# Altium schematic symbol library dungvh03-CERN_Logic.SchLib: 486 symbols (part 7 of 54)
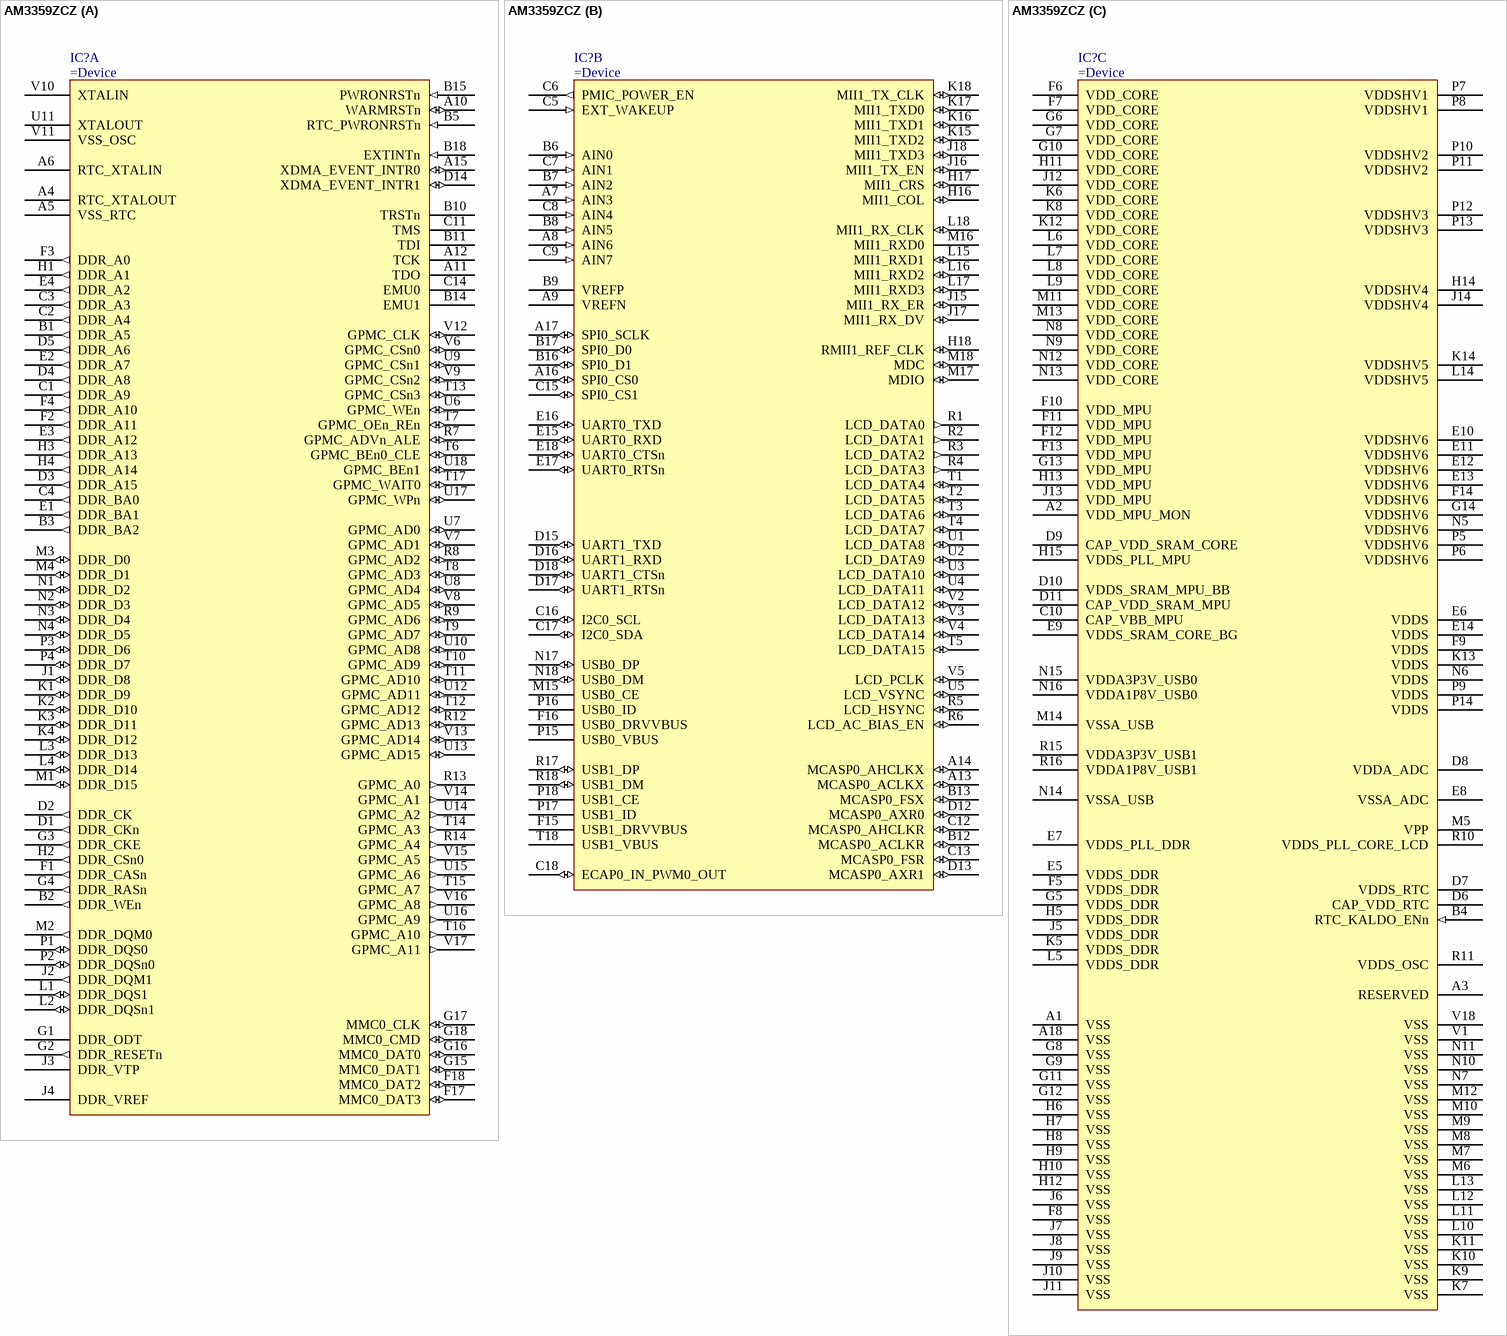
[diagram p267: symbol AM3359ZCZ]

## AM3359ZCZ
designator IC?
SubArctic Cortex A8 Processor
part A pins: A4 RTC_XTALOUT, A5 VSS_RTC (power), A6 RTC_XTALIN, A10 WARMRSTn (io), A11 TDO, A12 TCK, A15 XDMA_EVENT_INTR0 (io), B1 DDR_A5 (out), B2 DDR_WEn (out), B3 DDR_BA2 (out), B5 RTC_PWRONRSTn (in), B10 TRSTn, B11 TDI, B14 EMU1, B15 PWRONRSTn (in), B18 EXTINTn (in), C1 DDR_A9 (out), C2 DDR_A4 (out), C3 DDR_A3 (out), C4 DDR_BA0 (out), C11 TMS, C14 EMU0, D1 DDR_CKn (out), D2 DDR_CK (out), D3 DDR_A15 (out), D4 DDR_A8 (out), D5 DDR_A6 (out), D14 XDMA_EVENT_INTR1 (io), E1 DDR_BA1 (out), E2 DDR_A7 (out), E3 DDR_A12 (out), E4 DDR_A2 (out), F1 DDR_CASn (out), F2 DDR_A11 (out), F3 DDR_A0 (out), F4 DDR_A10 (out), F17 MMC0_DAT3 (io), F18 MMC0_DAT2 (io), G1 DDR_ODT, G2 DDR_RESETn (out), G3 DDR_CKE (out), G4 DDR_RASn (out), G15 MMC0_DAT1 (io), G16 MMC0_DAT0 (io), G17 MMC0_CLK (io), G18 MMC0_CMD (io), H1 DDR_A1 (out), H2 DDR_CSn0 (out), H3 DDR_A13 (out), H4 DDR_A14 (out), J1 DDR_D8 (io), J2 DDR_DQM1 (out), J3 DDR_VTP, J4 DDR_VREF, K1 DDR_D9 (io), K2 DDR_D10 (io), K3 DDR_D11 (io), K4 DDR_D12 (io), L1 DDR_DQS1 (io), L2 DDR_DQSn1 (io), L3 DDR_D13 (io), L4 DDR_D14 (io), M1 DDR_D15 (io), M2 DDR_DQM0 (out), M3 DDR_D0 (io), M4 DDR_D1 (io), N1 DDR_D2 (io), N2 DDR_D3 (io), N3 DDR_D4 (io), N4 DDR_D5 (io), P1 DDR_DQS0 (io), P2 DDR_DQSn0 (io), P3 DDR_D6 (io), P4 DDR_D7 (io), R7 GPMC_ADVn_ALE (io), R8 GPMC_AD2 (io), R9 GPMC_AD6 (io), R12 GPMC_AD13 (io), R13 GPMC_A0 (out), R14 GPMC_A4 (out), T6 GPMC_BEn0_CLE (io), T7 GPMC_OEn_REn (io), T8 GPMC_AD3 (io), T9 GPMC_AD7 (io), T10 GPMC_AD9 (io), T11 GPMC_AD10 (io), T12 GPMC_AD12 (io), T13 GPMC_CSn3 (io), T14 GPMC_A3 (out), T15 GPMC_A7 (out), T16 GPMC_A10 (out), T17 GPMC_WAIT0 (io), U6 GPMC_WEn (io), U7 GPMC_AD0 (io), U8 GPMC_AD4 (io), U9 GPMC_CSn1 (io), U10 GPMC_AD8 (io), U11 XTALOUT, U12 GPMC_AD11 (io), U13 GPMC_AD15 (io), U14 GPMC_A2 (out), U15 GPMC_A6 (out), U16 GPMC_A9 (out), U17 GPMC_WPn (io), U18 GPMC_BEn1 (io), V6 GPMC_CSn0 (io), V7 GPMC_AD1 (io), V8 GPMC_AD5 (io), V9 GPMC_CSn2 (io), V10 XTALIN, V11 VSS_OSC (power), V12 GPMC_CLK (io), V13 GPMC_AD14 (io), V14 GPMC_A1 (out), V15 GPMC_A5 (out), V16 GPMC_A8 (out), V17 GPMC_A11 (out)
part B pins: A7 AIN3 (in), A8 AIN6 (in), A9 VREFN, A13 MCASP0_ACLKX (io), A14 MCASP0_AHCLKX (io), A16 SPI0_CS0 (io), A17 SPI0_SCLK (io), B6 AIN0 (in), B7 AIN2 (in), B8 AIN5 (in), B9 VREFP, B12 MCASP0_ACLKR (io), B13 MCASP0_FSX (io), B16 SPI0_D1 (io), B17 SPI0_D0 (io), C5 EXT_WAKEUP (in), C6 PMIC_POWER_EN (out), C7 AIN1 (in), C8 AIN4 (in), C9 AIN7 (in), C12 MCASP0_AHCLKR (io), C13 MCASP0_FSR (io), C15 SPI0_CS1 (io), C16 I2C0_SCL (io), C17 I2C0_SDA (io), C18 ECAP0_IN_PWM0_OUT (io), D12 MCASP0_AXR0 (io), D13 MCASP0_AXR1 (io), D15 UART1_TXD (io), D16 UART1_RXD (io), D17 UART1_RTSn (io), D18 UART1_CTSn (io), E15 UART0_RXD (io), E16 UART0_TXD (io), E17 UART0_RTSn (io), E18 UART0_CTSn (io), F15 USB1_DRVVBUS, F16 USB0_DRVVBUS, H16 MII1_COL (io), H17 MII1_CRS (io), H18 RMII1_REF_CLK (io), J15 MII1_RX_ER (io), J16 MII1_TX_EN (io), J17 MII1_RX_DV (io), J18 MII1_TXD3 (io), K15 MII1_TXD2 (io), K16 MII1_TXD1 (io), K17 MII1_TXD0 (io), K18 MII1_TX_CLK (io), L15 MII1_RXD1 (io), L16 MII1_RXD2 (io), L17 MII1_RXD3 (io), L18 MII1_RX_CLK (io), M15 USB0_CE, M16 MII1_RXD0, M17 MDIO (io), M18 MDC (io), N17 USB0_DP (io), N18 USB0_DM (io), P15 USB0_VBUS, P16 USB0_ID, P17 USB1_ID, P18 USB1_CE, R1 LCD_DATA0 (out), R2 LCD_DATA1 (out), R3 LCD_DATA2 (out), R4 LCD_DATA3 (out), R5 LCD_HSYNC (io), R6 LCD_AC_BIAS_EN (io), R17 USB1_DP (io), R18 USB1_DM (io), T1 LCD_DATA4 (io), T2 LCD_DATA5 (io), T3 LCD_DATA6 (io), T4 LCD_DATA7 (io), T5 LCD_DATA15 (io), T18 USB1_VBUS, U1 LCD_DATA8 (io), U2 LCD_DATA9 (io), U3 LCD_DATA10 (io), U4 LCD_DATA11 (io), U5 LCD_VSYNC (io), V2 LCD_DATA12 (io), V3 LCD_DATA13 (io), V4 LCD_DATA14 (io), V5 LCD_PCLK (io)
part C pins: A1 VSS (power), A2 VDD_MPU_MON, A3 RESERVED, A18 VSS (power), B4 RTC_KALDO_ENn (in), C10 CAP_VBB_MPU, D6 CAP_VDD_RTC (power), D7 VDDS_RTC (power), D8 VDDA_ADC (power), D9 CAP_VDD_SRAM_CORE (power), D10 VDDS_SRAM_MPU_BB (power), D11 CAP_VDD_SRAM_MPU (power), E5 VDDS_DDR (power), E6 VDDS (power), E7 VDDS_PLL_DDR (power), E8 VSSA_ADC (power), E9 VDDS_SRAM_CORE_BG (power), E10 VDDSHV6 (power), E11 VDDSHV6 (power), E12 VDDSHV6 (power), E13 VDDSHV6 (power), E14 VDDS (power), F5 VDDS_DDR (power), F6 VDD_CORE (power), F7 VDD_CORE (power), F8 VSS (power), F9 VDDS (power), F10 VDD_MPU (power), F11 VDD_MPU (power), F12 VDD_MPU (power), F13 VDD_MPU (power), F14 VDDSHV6 (power), G5 VDDS_DDR (power), G6 VDD_CORE (power), G7 VDD_CORE (power), G8 VSS (power), G9 VSS (power), G10 VDD_CORE (power), G11 VSS (power), G12 VSS (power), G13 VDD_MPU (power), G14 VDDSHV6 (power), H5 VDDS_DDR (power), H6 VSS (power), H7 VSS (power), H8 VSS (power), H9 VSS (power), H10 VSS (power), H11 VDD_CORE (power), H12 VSS (power), H13 VDD_MPU (power), H14 VDDSHV4 (power), H15 VDDS_PLL_MPU (power), J5 VDDS_DDR (power), J6 VSS (power), J7 VSS (power), J8 VSS (power), J9 VSS (power), J10 VSS (power), J11 VSS (power), J12 VDD_CORE (power), J13 VDD_MPU (power), J14 VDDSHV4 (power), K5 VDDS_DDR (power), K6 VDD_CORE (power), K7 VSS (power), K8 VDD_CORE (power), K9 VSS (power), K10 VSS (power), K11 VSS (power), K12 VDD_CORE (power), K13 VDDS (power), K14 VDDSHV5 (power), L5 VDDS_DDR (power), L6 VDD_CORE (power), L7 VDD_CORE (power), L8 VDD_CORE (power), L9 VDD_CORE (power), L10 VSS (power), L11 VSS (power), L12 VSS (power), L13 VSS (power), L14 VDDSHV5 (power), M5 VPP (power), M6 VSS (power), M7 VSS (power), M8 VSS (power), M9 VSS (power), M10 VSS (power), M11 VDD_CORE (power), M12 VSS (power), M13 VDD_CORE (power), M14 VSSA_USB (power), N5 VDDSHV6 (power), N6 VDDS (power), N7 VSS (power), N8 VDD_CORE (power), N9 VDD_CORE (power), N10 VSS (power), N11 VSS (power), N12 VDD_CORE (power), N13 VDD_CORE (power), N14 VSSA_USB (power), N15 VDDA3P3V_USB0 (power), N16 VDDA1P8V_USB0 (power), P5 VDDSHV6 (power), P6 VDDSHV6 (power), P7 VDDSHV1 (power), P8 VDDSHV1 (power), P9 VDDS (power), P10 VDDSHV2 (power), P11 VDDSHV2 (power), P12 VDDSHV3 (power), P13 VDDSHV3 (power), P14 VDDS (power), R10 VDDS_PLL_CORE_LCD (power), R11 VDDS_OSC (power), R15 VDDA3P3V_USB1 (power), R16 VDDA1P8V_USB1 (power), V1 VSS (power), V18 VSS (power)

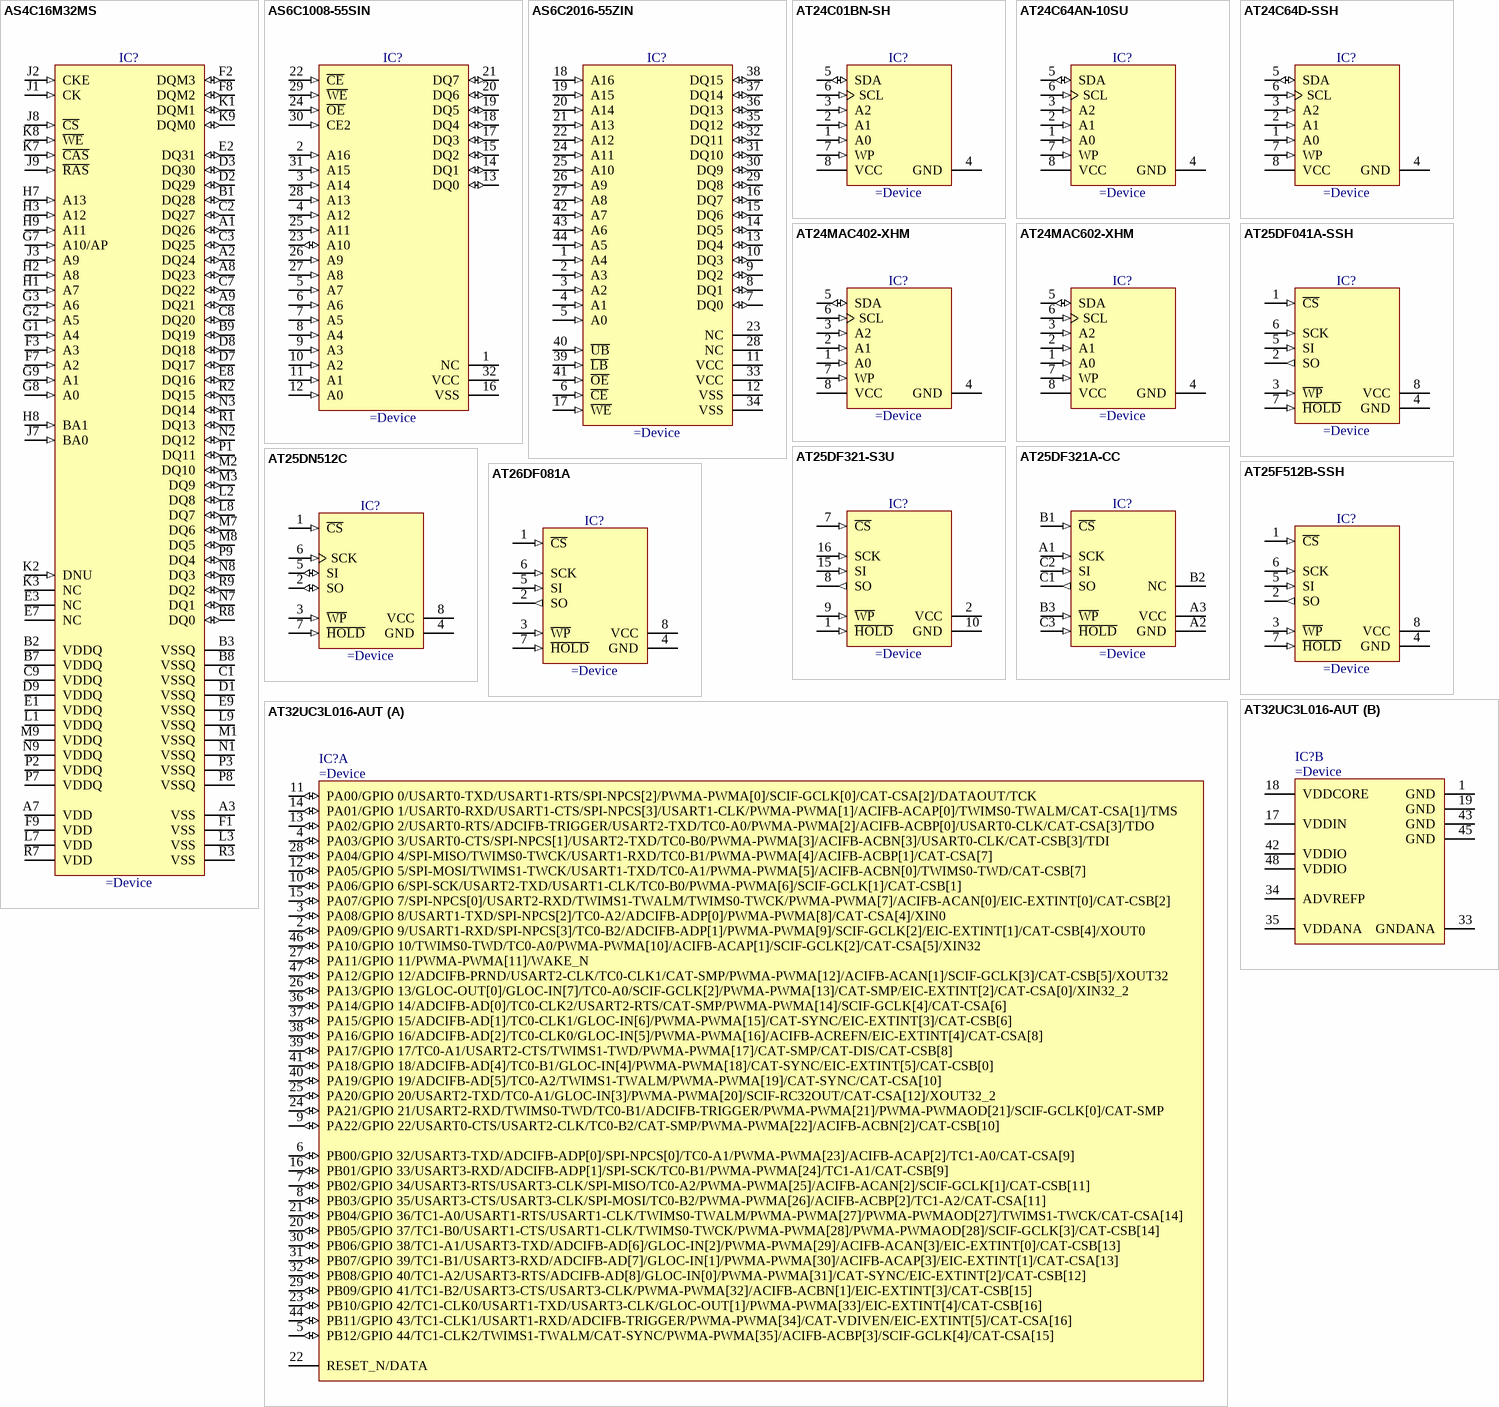
[diagram p34: symbols AS4C16M32MS to AT32UC3L016-AUT]

## AS4C16M32MS
designator IC?
512M (32Mx32), 1.8V, 166MHz, Low Power Mobile SDRAM (MSDR)
pins: A1 DQ26 (io), A2 DQ24 (io), A3 VSS (power), A7 VDD (power), A8 DQ23 (io), A9 DQ21 (io), B1 DQ28 (io), B2 VDDQ (power), B3 VSSQ (power), B7 VDDQ (power), B8 VSSQ (power), B9 DQ19 (io), C1 VSSQ (power), C2 DQ27 (io), C3 DQ25 (io), C7 DQ22 (io), C8 DQ20 (io), C9 VDDQ (power), D1 VSSQ (power), D2 DQ29 (io), D3 DQ30 (io), D7 DQ17 (io), D8 DQ18 (io), D9 VDDQ (power), E1 VDDQ (power), E2 DQ31 (io), E3 NC, E7 NC, E8 DQ16 (io), E9 VSSQ (power), F1 VSS (power), F2 DQM3 (io), F3 A3 (in), F7 A2 (in), F8 DQM2 (io), F9 VDD (power), G1 A4 (in), G2 A5 (in), G3 A6 (in), G7 A10/AP (in), G8 A0 (in), G9 A1 (in), H1 A7 (in), H2 A8 (in), H3 A12 (in), H7 A13 (in), H8 BA1 (in), H9 A11 (in), J1 CK (in), J2 CKE (in), J3 A9 (in), J7 BA0 (in), J8 ~{CS} (in), J9 ~{RAS} (in), K1 DQM1 (io), K2 DNU (in), K3 NC, K7 ~{CAS} (in), K8 ~{WE} (in), K9 DQM0 (io), L1 VDDQ (power), L2 DQ8 (io), L3 VSS (power), L7 VDD (power), L8 DQ7 (io), L9 VSSQ (power), M1 VSSQ (power), M2 DQ10 (io), M3 DQ9 (io), M7 DQ6 (io), M8 DQ5 (io), M9 VDDQ (power), N1 VSSQ (power), N2 DQ12 (io), N3 DQ14 (io), N7 DQ1 (io), N8 DQ3 (io), N9 VDDQ (power), P1 DQ11 (io), P2 VDDQ (power), P3 VSSQ (power), P7 VDDQ (power), P8 VSSQ (power), P9 DQ4 (io), R1 DQ13 (io), R2 DQ15 (io), R3 VSS (power), R7 VDD (power), R8 DQ0 (io), R9 DQ2 (io)

## AS6C1008-55SIN
designator IC?
2.7V-5V Low Power 128K x 8 CMOS Static RAM
pins: 1 NC, 2 A16 (in), 3 A14 (in), 4 A12 (in), 5 A7 (in), 6 A6 (in), 7 A5 (in), 8 A4 (in), 9 A3 (in), 10 A2 (in), 11 A1 (in), 12 A0 (in), 13 DQ0 (io), 14 DQ1 (io), 15 DQ2 (io), 16 VSS (power), 17 DQ3 (io), 18 DQ4 (io), 19 DQ5 (io), 20 DQ6 (io), 21 DQ7 (io), 22 ~{CE} (in), 23 A10 (io), 24 ~{OE} (in), 25 A11 (in), 26 A9 (in), 27 A8 (in), 28 A13 (in), 29 ~{WE} (in), 30 CE2 (in), 31 A15 (in), 32 VCC (power)

## AS6C2016-55ZIN
designator IC?
2.7V-5V Low Power 128K x 16 Bit CMOS SRAM
pins: 1 A4 (in), 2 A3 (in), 3 A2 (in), 4 A1 (in), 5 A0 (in), 6 ~{CE} (in), 7 DQ0 (io), 8 DQ1 (io), 9 DQ2 (io), 10 DQ3 (io), 11 VCC (power), 12 VSS (power), 13 DQ4 (io), 14 DQ5 (io), 15 DQ6 (io), 16 DQ7 (io), 17 ~{WE} (in), 18 A16 (in), 19 A15 (in), 20 A14 (in), 21 A13 (in), 22 A12 (in), 23 NC, 24 A11 (in), 25 A10 (in), 26 A9 (in), 27 A8 (in), 28 NC, 29 DQ8 (io), 30 DQ9 (io), 31 DQ10 (io), 32 DQ11 (io), 33 VCC (power), 34 VSS (power), 35 DQ12 (io), 36 DQ13 (io), 37 DQ14 (io), 38 DQ15 (io), 39 ~{LB} (in), 40 ~{UB} (in), 41 ~{OE} (in), 42 A7 (in), 43 A6 (in), 44 A5 (in)

## AT24C01BN-SH
designator IC?
1K (128 x 8), 2-Wire Bus Serial EEPROM
pins: 1 A0 (in), 2 A1 (in), 3 A2 (in), 4 GND (power), 5 SDA (io), 6 SCL (in), 7 WP (in), 8 VCC (power)

## AT24C64AN-10SU
designator IC?
64K (8192 x 8), Two-Wire Serial EEPROM
pins: 1 A0 (in), 2 A1 (in), 3 A2 (in), 4 GND (power), 5 SDA (io), 6 SCL (in), 7 WP (in), 8 VCC (power)

## AT24C64D-SSH
designator IC?
64K (8192 x 8), I2C-Compatible (2-Wire) Serial EEPROM
pins: 1 A0 (in), 2 A1 (in), 3 A2 (in), 4 GND (power), 5 SDA (io), 6 SCL (in), 7 WP (in), 8 VCC (power)

## AT24MAC402-XHM
designator IC?
1.7V to 5.5V, I2C-Compatible (2-wire) 2-Kbit (256 x 8) Serial EEPROM
pins: 1 A0 (in), 2 A1 (in), 3 A2 (in), 4 GND (power), 5 SDA (io), 6 SCL (in), 7 WP (in), 8 VCC (power)

## AT24MAC602-XHM
designator IC?
1.7V to 5.5V, I2C-Compatible (2-wire) 2-Kbit (256 x 8) Serial EEPROM
pins: 1 A0 (in), 2 A1 (in), 3 A2 (in), 4 GND (power), 5 SDA (io), 6 SCL (in), 7 WP (in), 8 VCC (power)

## AT25DF041A-SSH
designator IC?
4M (524288x8) 2.7V High Speed Small Sectored SPI Flash Memory
pins: 1 ~{CS} (in), 2 SO (out), 3 ~{WP} (in), 4 GND (power), 5 SI (in), 6 SCK (in), 7 ~{HOLD} (in), 8 VCC (power)

## AT25DF321-S3U
designator IC?
32MBit 2.7V Minimum SPI Serial Flash Memory
pins: 1 ~{HOLD} (in), 2 VCC (power), 7 ~{CS} (in), 8 SO (out), 9 ~{WP} (in), 10 GND (power), 15 SI (in), 16 SCK (in)

## AT25DF321A-CC
designator IC?
32Mbit 2.7V Minimum,  SPI Serial Flash Memory
pins: A1 SCK (in), A2 GND (power), A3 VCC (power), B1 ~{CS} (in), B2 NC, B3 ~{WP} (in), C1 SO (out), C2 SI (in), C3 ~{HOLD} (in)

## AT25DN512C
designator IC?
512kBit 2.3V Minimum, SPI Serial Flash Memory with Dual-Read Support
pins: 1 ~{CS} (in), 2 SO (io), 3 ~{WP} (in), 4 GND (power), 5 SI (io), 6 SCK (in), 7 ~{HOLD} (in), 8 VCC (power)

## AT25F512B-SSH
designator IC?
512kBit 2.7V Minimum SPI Serial Flash Memory
pins: 1 ~{CS} (in), 2 SO (out), 3 ~{WP} (in), 4 GND (power), 5 SI (in), 6 SCK (in), 7 ~{HOLD} (in), 8 VCC (power)

## AT26DF081A
designator IC?
8MBit 2.7V Minimum SPI Serial Flash Memory
pins: 1 ~{CS} (in), 2 SO (out), 3 ~{WP} (in), 4 GND (power), 5 SI (in), 6 SCK (in), 7 ~{HOLD} (in), 8 VCC (power)

## AT32UC3L016-AUT
designator IC?
High-performance, Low-power 32-bit Atmel® AVR® Microcontroller
part A pins: 2 PA09/GPIO 9/USART1-RXD/SPI-NPCS[3]/TC0-B2/ADCIFB-ADP[1]/PWMA-PWMA[9]/SCIF-GCLK[2]/EIC-EXTINT[1]/CAT-CSB[4]/XOUT0 (io), 3 PA08/GPIO 8/USART1-TXD/SPI-NPCS[2]/TC0-A2/ADCIFB-ADP[0]/PWMA-PWMA[8]/CAT-CSA[4]/XIN0 (io), 4 PA03/GPIO 3/USART0-CTS/SPI-NPCS[1]/USART2-TXD/TC0-B0/PWMA-PWMA[3]/ACIFB-ACBN[3]/USART0-CLK/CAT-CSB[3]/TDI (io), 5 PB12/GPIO 44/TC1-CLK2/TWIMS1-TWALM/CAT-SYNC/PWMA-PWMA[35]/ACIFB-ACBP[3]/SCIF-GCLK[4]/CAT-CSA[15] (io), 6 PB00/GPIO 32/USART3-TXD/ADCIFB-ADP[0]/SPI-NPCS[0]/TC0-A1/PWMA-PWMA[23]/ACIFB-ACAP[2]/TC1-A0/CAT-CSA[9] (io), 7 PB02/GPIO 34/USART3-RTS/USART3-CLK/SPI-MISO/TC0-A2/PWMA-PWMA[25]/ACIFB-ACAN[2]/SCIF-GCLK[1]/CAT-CSB[11] (io), 8 PB03/GPIO 35/USART3-CTS/USART3-CLK/SPI-MOSI/TC0-B2/PWMA-PWMA[26]/ACIFB-ACBP[2]/TC1-A2/CAT-CSA[11] (io), 9 PA22/GPIO 22/USART0-CTS/USART2-CLK/TC0-B2/CAT-SMP/PWMA-PWMA[22]/ACIFB-ACBN[2]/CAT-CSB[10] (io), 10 PA06/GPIO 6/SPI-SCK/USART2-TXD/USART1-CLK/TC0-B0/PWMA-PWMA[6]/SCIF-GCLK[1]/CAT-CSB[1] (io), 11 PA00/GPIO 0/USART0-TXD/USART1-RTS/SPI-NPCS[2]/PWMA-PWMA[0]/SCIF-GCLK[0]/CAT-CSA[2]/DATAOUT/TCK (io), 12 PA05/GPIO 5/SPI-MOSI/TWIMS1-TWCK/USART1-TXD/TC0-A1/PWMA-PWMA[5]/ACIFB-ACBN[0]/TWIMS0-TWD/CAT-CSB[7] (io), 13 PA02/GPIO 2/USART0-RTS/ADCIFB-TRIGGER/USART2-TXD/TC0-A0/PWMA-PWMA[2]/ACIFB-ACBP[0]/USART0-CLK/CAT-CSA[3]/TDO (io), 14 PA01/GPIO 1/USART0-RXD/USART1-CTS/SPI-NPCS[3]/USART1-CLK/PWMA-PWMA[1]/ACIFB-ACAP[0]/TWIMS0-TWALM/CAT-CSA[1]/TMS (io), 15 PA07/GPIO 7/SPI-NPCS[0]/USART2-RXD/TWIMS1-TWALM/TWIMS0-TWCK/PWMA-PWMA[7]/ACIFB-ACAN[0]/EIC-EXTINT[0]/CAT-CSB[2] (io), 16 PB01/GPIO 33/USART3-RXD/ADCIFB-ADP[1]/SPI-SCK/TC0-B1/PWMA-PWMA[24]/TC1-A1/CAT-CSB[9] (io), 20 PB05/GPIO 37/TC1-B0/USART1-CTS/USART1-CLK/TWIMS0-TWCK/PWMA-PWMA[28]/PWMA-PWMAOD[28]/SCIF-GCLK[3]/CAT-CSB[14] (io), 21 PB04/GPIO 36/TC1-A0/USART1-RTS/USART1-CLK/TWIMS0-TWALM/PWMA-PWMA[27]/PWMA-PWMAOD[27]/TWIMS1-TWCK/CAT-CSA[14] (io), 22 RESET_N/DATA (power), 23 PB10/GPIO 42/TC1-CLK0/USART1-TXD/USART3-CLK/GLOC-OUT[1]/PWMA-PWMA[33]/EIC-EXTINT[4]/CAT-CSB[16] (io), 24 PA21/GPIO 21/USART2-RXD/TWIMS0-TWD/TC0-B1/ADCIFB-TRIGGER/PWMA-PWMA[21]/PWMA-PWMAOD[21]/SCIF-GCLK[0]/CAT-SMP (io), 25 PA20/GPIO 20/USART2-TXD/TC0-A1/GLOC-IN[3]/PWMA-PWMA[20]/SCIF-RC32OUT/CAT-CSA[12]/XOUT32_2 (io), 26 PA13/GPIO 13/GLOC-OUT[0]/GLOC-IN[7]/TC0-A0/SCIF-GCLK[2]/PWMA-PWMA[13]/CAT-SMP/EIC-EXTINT[2]/CAT-CSA[0]/XIN32_2 (io), 27 PA11/GPIO 11/PWMA-PWMA[11]/WAKE_N (io), 28 PA04/GPIO 4/SPI-MISO/TWIMS0-TWCK/USART1-RXD/TC0-B1/PWMA-PWMA[4]/ACIFB-ACBP[1]/CAT-CSA[7] (io), 29 PB09/GPIO 41/TC1-B2/USART3-CTS/USART3-CLK/PWMA-PWMA[32]/ACIFB-ACBN[1]/EIC-EXTINT[3]/CAT-CSB[15] (io), 30 PB06/GPIO 38/TC1-A1/USART3-TXD/ADCIFB-AD[6]/GLOC-IN[2]/PWMA-PWMA[29]/ACIFB-ACAN[3]/EIC-EXTINT[0]/CAT-CSB[13] (io), 31 PB07/GPIO 39/TC1-B1/USART3-RXD/ADCIFB-AD[7]/GLOC-IN[1]/PWMA-PWMA[30]/ACIFB-ACAP[3]/EIC-EXTINT[1]/CAT-CSA[13] (io), 32 PB08/GPIO 40/TC1-A2/USART3-RTS/ADCIFB-AD[8]/GLOC-IN[0]/PWMA-PWMA[31]/CAT-SYNC/EIC-EXTINT[2]/CAT-CSB[12] (io), 36 PA14/GPIO 14/ADCIFB-AD[0]/TC0-CLK2/USART2-RTS/CAT-SMP/PWMA-PWMA[14]/SCIF-GCLK[4]/CAT-CSA[6] (io), 37 PA15/GPIO 15/ADCIFB-AD[1]/TC0-CLK1/GLOC-IN[6]/PWMA-PWMA[15]/CAT-SYNC/EIC-EXTINT[3]/CAT-CSB[6] (io), 38 PA16/GPIO 16/ADCIFB-AD[2]/TC0-CLK0/GLOC-IN[5]/PWMA-PWMA[16]/ACIFB-ACREFN/EIC-EXTINT[4]/CAT-CSA[8] (io), 39 PA17/GPIO 17/TC0-A1/USART2-CTS/TWIMS1-TWD/PWMA-PWMA[17]/CAT-SMP/CAT-DIS/CAT-CSB[8] (io), 40 PA19/GPIO 19/ADCIFB-AD[5]/TC0-A2/TWIMS1-TWALM/PWMA-PWMA[19]/CAT-SYNC/CAT-CSA[10] (io), 41 PA18/GPIO 18/ADCIFB-AD[4]/TC0-B1/GLOC-IN[4]/PWMA-PWMA[18]/CAT-SYNC/EIC-EXTINT[5]/CAT-CSB[0] (io), 44 PB11/GPIO 43/TC1-CLK1/USART1-RXD/ADCIFB-TRIGGER/PWMA-PWMA[34]/CAT-VDIVEN/EIC-EXTINT[5]/CAT-CSA[16] (io), 46 PA10/GPIO 10/TWIMS0-TWD/TC0-A0/PWMA-PWMA[10]/ACIFB-ACAP[1]/SCIF-GCLK[2]/CAT-CSA[5]/XIN32 (io), 47 PA12/GPIO 12/ADCIFB-PRND/USART2-CLK/TC0-CLK1/CAT-SMP/PWMA-PWMA[12]/ACIFB-ACAN[1]/SCIF-GCLK[3]/CAT-CSB[5]/XOUT32 (io)
part B pins: 1 GND (power), 17 VDDIN (power), 18 VDDCORE (power), 19 GND (power), 33 GNDANA (power), 34 ADVREFP (power), 35 VDDANA (power), 42 VDDIO (power), 43 GND (power), 45 GND (power), 48 VDDIO (power)

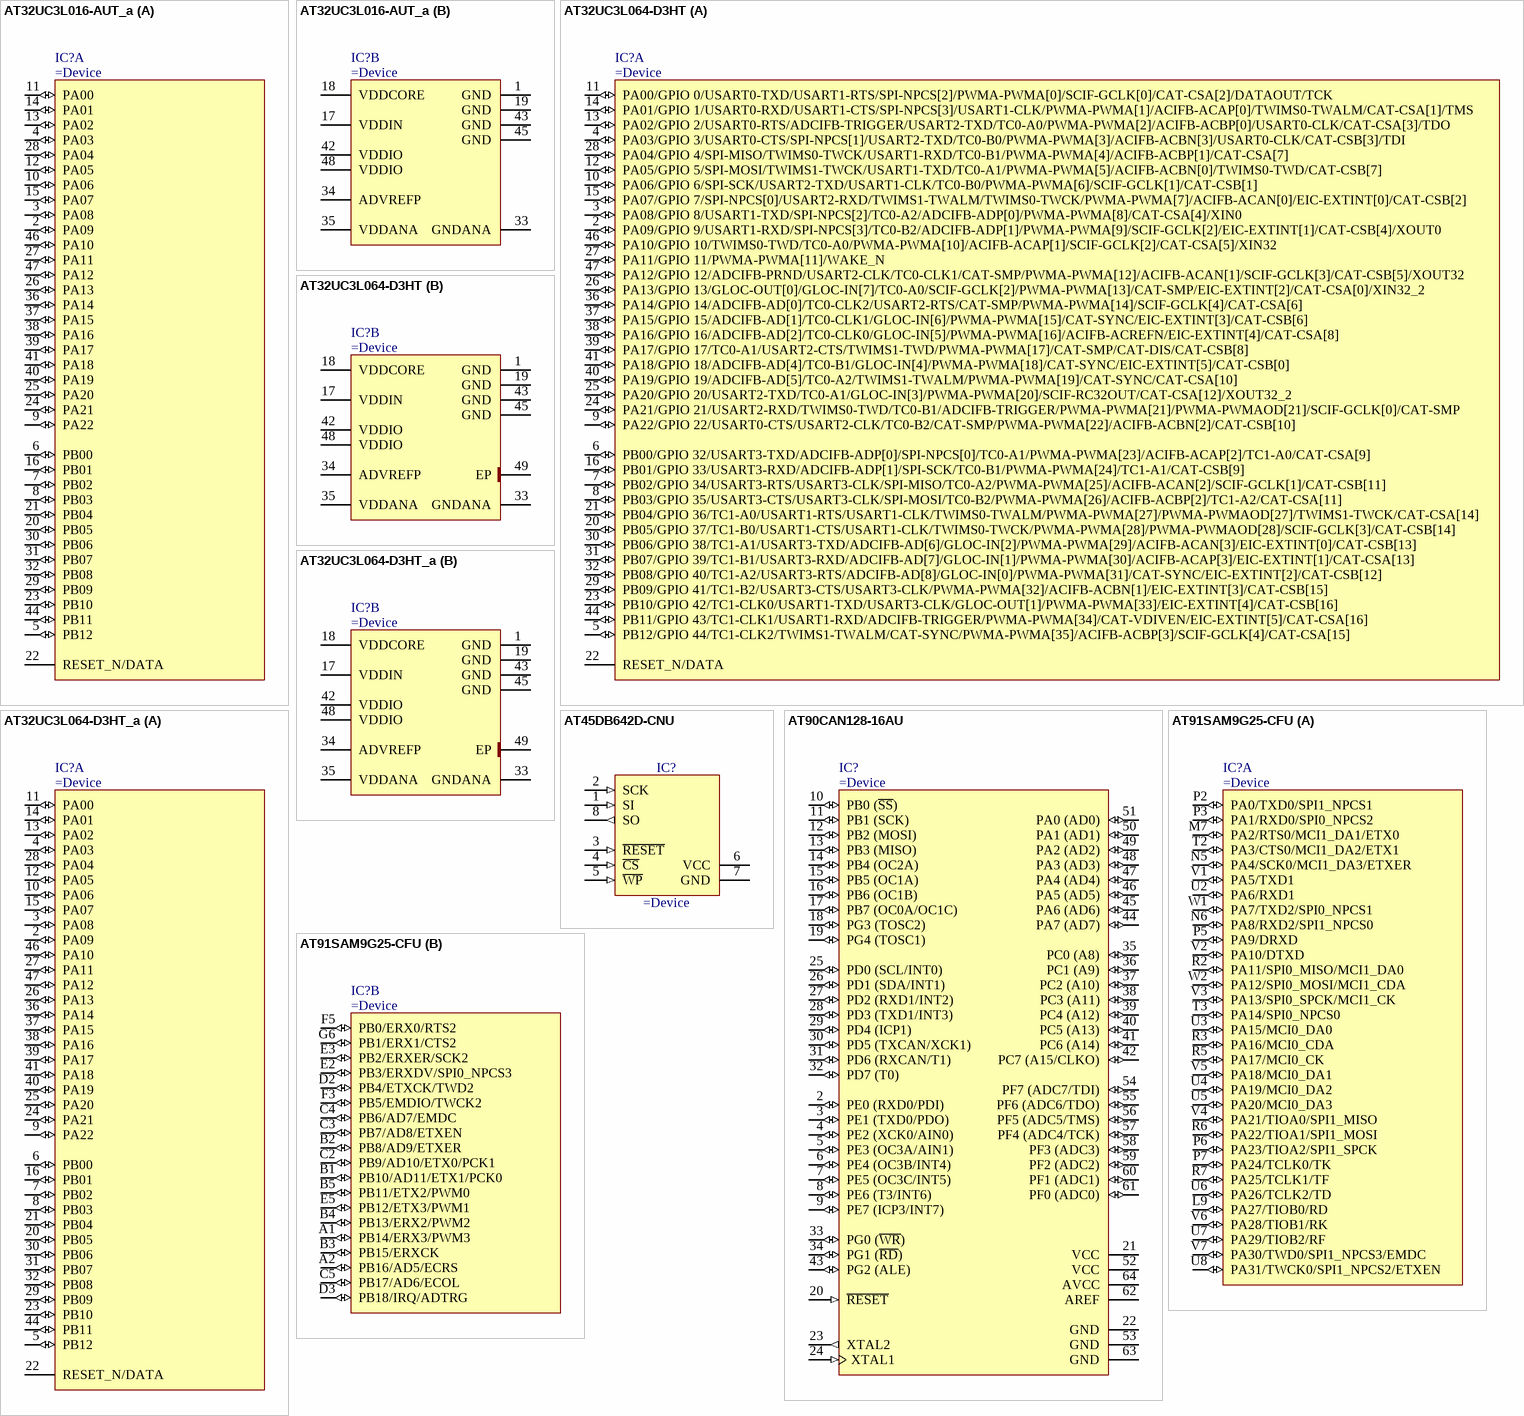
[diagram p35: symbols AT32UC3L016-AUT_a to AT91SAM9G25-CFU]

## AT32UC3L016-AUT_a
designator IC?
High-performance, Low-power 32-bit Atmel® AVR® Microcontroller
part A pins: 2 PA09 (io), 3 PA08 (io), 4 PA03 (io), 5 PB12 (io), 6 PB00 (io), 7 PB02 (io), 8 PB03 (io), 9 PA22 (io), 10 PA06 (io), 11 PA00 (io), 12 PA05 (io), 13 PA02 (io), 14 PA01 (io), 15 PA07 (io), 16 PB01 (io), 20 PB05 (io), 21 PB04 (io), 22 RESET_N/DATA (power), 23 PB10 (io), 24 PA21 (io), 25 PA20 (io), 26 PA13 (io), 27 PA11 (io), 28 PA04 (io), 29 PB09 (io), 30 PB06 (io), 31 PB07 (io), 32 PB08 (io), 36 PA14 (io), 37 PA15 (io), 38 PA16 (io), 39 PA17 (io), 40 PA19 (io), 41 PA18 (io), 44 PB11 (io), 46 PA10 (io), 47 PA12 (io)
part B pins: 1 GND (power), 17 VDDIN (power), 18 VDDCORE (power), 19 GND (power), 33 GNDANA (power), 34 ADVREFP (power), 35 VDDANA (power), 42 VDDIO (power), 43 GND (power), 45 GND (power), 48 VDDIO (power)

## AT32UC3L064-D3HT
designator IC?
High-performance, Low-power 32-bit Atmel® AVR® Microcontroller
part A pins: 2 PA09/GPIO 9/USART1-RXD/SPI-NPCS[3]/TC0-B2/ADCIFB-ADP[1]/PWMA-PWMA[9]/SCIF-GCLK[2]/EIC-EXTINT[1]/CAT-CSB[4]/XOUT0 (io), 3 PA08/GPIO 8/USART1-TXD/SPI-NPCS[2]/TC0-A2/ADCIFB-ADP[0]/PWMA-PWMA[8]/CAT-CSA[4]/XIN0 (io), 4 PA03/GPIO 3/USART0-CTS/SPI-NPCS[1]/USART2-TXD/TC0-B0/PWMA-PWMA[3]/ACIFB-ACBN[3]/USART0-CLK/CAT-CSB[3]/TDI (io), 5 PB12/GPIO 44/TC1-CLK2/TWIMS1-TWALM/CAT-SYNC/PWMA-PWMA[35]/ACIFB-ACBP[3]/SCIF-GCLK[4]/CAT-CSA[15] (io), 6 PB00/GPIO 32/USART3-TXD/ADCIFB-ADP[0]/SPI-NPCS[0]/TC0-A1/PWMA-PWMA[23]/ACIFB-ACAP[2]/TC1-A0/CAT-CSA[9] (io), 7 PB02/GPIO 34/USART3-RTS/USART3-CLK/SPI-MISO/TC0-A2/PWMA-PWMA[25]/ACIFB-ACAN[2]/SCIF-GCLK[1]/CAT-CSB[11] (io), 8 PB03/GPIO 35/USART3-CTS/USART3-CLK/SPI-MOSI/TC0-B2/PWMA-PWMA[26]/ACIFB-ACBP[2]/TC1-A2/CAT-CSA[11] (io), 9 PA22/GPIO 22/USART0-CTS/USART2-CLK/TC0-B2/CAT-SMP/PWMA-PWMA[22]/ACIFB-ACBN[2]/CAT-CSB[10] (io), 10 PA06/GPIO 6/SPI-SCK/USART2-TXD/USART1-CLK/TC0-B0/PWMA-PWMA[6]/SCIF-GCLK[1]/CAT-CSB[1] (io), 11 PA00/GPIO 0/USART0-TXD/USART1-RTS/SPI-NPCS[2]/PWMA-PWMA[0]/SCIF-GCLK[0]/CAT-CSA[2]/DATAOUT/TCK (io), 12 PA05/GPIO 5/SPI-MOSI/TWIMS1-TWCK/USART1-TXD/TC0-A1/PWMA-PWMA[5]/ACIFB-ACBN[0]/TWIMS0-TWD/CAT-CSB[7] (io), 13 PA02/GPIO 2/USART0-RTS/ADCIFB-TRIGGER/USART2-TXD/TC0-A0/PWMA-PWMA[2]/ACIFB-ACBP[0]/USART0-CLK/CAT-CSA[3]/TDO (io), 14 PA01/GPIO 1/USART0-RXD/USART1-CTS/SPI-NPCS[3]/USART1-CLK/PWMA-PWMA[1]/ACIFB-ACAP[0]/TWIMS0-TWALM/CAT-CSA[1]/TMS (io), 15 PA07/GPIO 7/SPI-NPCS[0]/USART2-RXD/TWIMS1-TWALM/TWIMS0-TWCK/PWMA-PWMA[7]/ACIFB-ACAN[0]/EIC-EXTINT[0]/CAT-CSB[2] (io), 16 PB01/GPIO 33/USART3-RXD/ADCIFB-ADP[1]/SPI-SCK/TC0-B1/PWMA-PWMA[24]/TC1-A1/CAT-CSB[9] (io), 20 PB05/GPIO 37/TC1-B0/USART1-CTS/USART1-CLK/TWIMS0-TWCK/PWMA-PWMA[28]/PWMA-PWMAOD[28]/SCIF-GCLK[3]/CAT-CSB[14] (io), 21 PB04/GPIO 36/TC1-A0/USART1-RTS/USART1-CLK/TWIMS0-TWALM/PWMA-PWMA[27]/PWMA-PWMAOD[27]/TWIMS1-TWCK/CAT-CSA[14] (io), 22 RESET_N/DATA (power), 23 PB10/GPIO 42/TC1-CLK0/USART1-TXD/USART3-CLK/GLOC-OUT[1]/PWMA-PWMA[33]/EIC-EXTINT[4]/CAT-CSB[16] (io), 24 PA21/GPIO 21/USART2-RXD/TWIMS0-TWD/TC0-B1/ADCIFB-TRIGGER/PWMA-PWMA[21]/PWMA-PWMAOD[21]/SCIF-GCLK[0]/CAT-SMP (io), 25 PA20/GPIO 20/USART2-TXD/TC0-A1/GLOC-IN[3]/PWMA-PWMA[20]/SCIF-RC32OUT/CAT-CSA[12]/XOUT32_2 (io), 26 PA13/GPIO 13/GLOC-OUT[0]/GLOC-IN[7]/TC0-A0/SCIF-GCLK[2]/PWMA-PWMA[13]/CAT-SMP/EIC-EXTINT[2]/CAT-CSA[0]/XIN32_2 (io), 27 PA11/GPIO 11/PWMA-PWMA[11]/WAKE_N (io), 28 PA04/GPIO 4/SPI-MISO/TWIMS0-TWCK/USART1-RXD/TC0-B1/PWMA-PWMA[4]/ACIFB-ACBP[1]/CAT-CSA[7] (io), 29 PB09/GPIO 41/TC1-B2/USART3-CTS/USART3-CLK/PWMA-PWMA[32]/ACIFB-ACBN[1]/EIC-EXTINT[3]/CAT-CSB[15] (io), 30 PB06/GPIO 38/TC1-A1/USART3-TXD/ADCIFB-AD[6]/GLOC-IN[2]/PWMA-PWMA[29]/ACIFB-ACAN[3]/EIC-EXTINT[0]/CAT-CSB[13] (io), 31 PB07/GPIO 39/TC1-B1/USART3-RXD/ADCIFB-AD[7]/GLOC-IN[1]/PWMA-PWMA[30]/ACIFB-ACAP[3]/EIC-EXTINT[1]/CAT-CSA[13] (io), 32 PB08/GPIO 40/TC1-A2/USART3-RTS/ADCIFB-AD[8]/GLOC-IN[0]/PWMA-PWMA[31]/CAT-SYNC/EIC-EXTINT[2]/CAT-CSB[12] (io), 36 PA14/GPIO 14/ADCIFB-AD[0]/TC0-CLK2/USART2-RTS/CAT-SMP/PWMA-PWMA[14]/SCIF-GCLK[4]/CAT-CSA[6] (io), 37 PA15/GPIO 15/ADCIFB-AD[1]/TC0-CLK1/GLOC-IN[6]/PWMA-PWMA[15]/CAT-SYNC/EIC-EXTINT[3]/CAT-CSB[6] (io), 38 PA16/GPIO 16/ADCIFB-AD[2]/TC0-CLK0/GLOC-IN[5]/PWMA-PWMA[16]/ACIFB-ACREFN/EIC-EXTINT[4]/CAT-CSA[8] (io), 39 PA17/GPIO 17/TC0-A1/USART2-CTS/TWIMS1-TWD/PWMA-PWMA[17]/CAT-SMP/CAT-DIS/CAT-CSB[8] (io), 40 PA19/GPIO 19/ADCIFB-AD[5]/TC0-A2/TWIMS1-TWALM/PWMA-PWMA[19]/CAT-SYNC/CAT-CSA[10] (io), 41 PA18/GPIO 18/ADCIFB-AD[4]/TC0-B1/GLOC-IN[4]/PWMA-PWMA[18]/CAT-SYNC/EIC-EXTINT[5]/CAT-CSB[0] (io), 44 PB11/GPIO 43/TC1-CLK1/USART1-RXD/ADCIFB-TRIGGER/PWMA-PWMA[34]/CAT-VDIVEN/EIC-EXTINT[5]/CAT-CSA[16] (io), 46 PA10/GPIO 10/TWIMS0-TWD/TC0-A0/PWMA-PWMA[10]/ACIFB-ACAP[1]/SCIF-GCLK[2]/CAT-CSA[5]/XIN32 (io), 47 PA12/GPIO 12/ADCIFB-PRND/USART2-CLK/TC0-CLK1/CAT-SMP/PWMA-PWMA[12]/ACIFB-ACAN[1]/SCIF-GCLK[3]/CAT-CSB[5]/XOUT32 (io)
part B pins: 1 GND (power), 17 VDDIN (power), 18 VDDCORE (power), 19 GND (power), 33 GNDANA (power), 34 ADVREFP (power), 35 VDDANA (power), 42 VDDIO (power), 43 GND (power), 45 GND (power), 48 VDDIO (power), 49 EP (power)

## AT32UC3L064-D3HT_a
designator IC?
High-performance, Low-power 32-bit Atmel® AVR® Microcontroller
part A pins: 2 PA09 (io), 3 PA08 (io), 4 PA03 (io), 5 PB12 (io), 6 PB00 (io), 7 PB02 (io), 8 PB03 (io), 9 PA22 (io), 10 PA06 (io), 11 PA00 (io), 12 PA05 (io), 13 PA02 (io), 14 PA01 (io), 15 PA07 (io), 16 PB01 (io), 20 PB05 (io), 21 PB04 (io), 22 RESET_N/DATA (power), 23 PB10 (io), 24 PA21 (io), 25 PA20 (io), 26 PA13 (io), 27 PA11 (io), 28 PA04 (io), 29 PB09 (io), 30 PB06 (io), 31 PB07 (io), 32 PB08 (io), 36 PA14 (io), 37 PA15 (io), 38 PA16 (io), 39 PA17 (io), 40 PA19 (io), 41 PA18 (io), 44 PB11 (io), 46 PA10 (io), 47 PA12 (io)
part B pins: 1 GND (power), 17 VDDIN (power), 18 VDDCORE (power), 19 GND (power), 33 GNDANA (power), 34 ADVREFP (power), 35 VDDANA (power), 42 VDDIO (power), 43 GND (power), 45 GND (power), 48 VDDIO (power), 49 EP (power)

## AT45DB642D-CNU
designator IC?
64-Megabit, 66MHz, 2.7V to 3.6V, Dual-Interface DataFlash®
pins: 1 SI (in), 2 SCK (in), 3 ~{RESET} (in), 4 ~{CS} (in), 5 ~{WP} (in), 6 VCC (power), 7 GND (power), 8 SO (out)

## AT90CAN128-16AU
designator IC?
8-bit AVR Microcontroller, 128KB Flash and CAN Controller, 53 GPIO pins, Industrial Grade (-40° to +85°C), 64-pin LQFP, Green
pins: 2 PE0 (RXD0/PDI) (io), 3 PE1 (TXD0/PDO) (io), 4 PE2 (XCK0/AIN0) (io), 5 PE3 (OC3A/AIN1) (io), 6 PE4 (OC3B/INT4) (io), 7 PE5 (OC3C/INT5) (io), 8 PE6 (T3/INT6) (io), 9 PE7 (ICP3/INT7) (io), 10 PB0 (~{SS}) (io), 11 PB1 (SCK) (io), 12 PB2 (MOSI) (io), 13 PB3 (MISO) (io), 14 PB4 (OC2A) (io), 15 PB5 (OC1A) (io), 16 PB6 (OC1B) (io), 17 PB7 (OC0A/OC1C) (io), 18 PG3 (TOSC2) (io), 19 PG4 (TOSC1) (io), 20 ~{RESET} (in), 21 VCC (power), 22 GND (power), 23 XTAL2 (out), 24 XTAL1 (in), 25 PD0 (SCL/INT0) (io), 26 PD1 (SDA/INT1) (io), 27 PD2 (RXD1/INT2) (io), 28 PD3 (TXD1/INT3) (io), 29 PD4 (ICP1) (io), 30 PD5 (TXCAN/XCK1) (io), 31 PD6 (RXCAN/T1) (io), 32 PD7 (T0) (io), 33 PG0 (~{WR}) (io), 34 PG1 (~{RD}) (io), 35 PC0 (A8) (io), 36 PC1 (A9) (io), 37 PC2 (A10) (io), 38 PC3 (A11) (io), 39 PC4 (A12) (io), 40 PC5 (A13) (io), 41 PC6 (A14) (io), 42 PC7 (A15/CLKO) (io), 43 PG2 (ALE) (io), 44 PA7 (AD7) (io), 45 PA6 (AD6) (io), 46 PA5 (AD5) (io), 47 PA4 (AD4) (io), 48 PA3 (AD3) (io), 49 PA2 (AD2) (io), 50 PA1 (AD1) (io), 51 PA0 (AD0) (io), 52 VCC (power), 53 GND (power), 54 PF7 (ADC7/TDI) (io), 55 PF6 (ADC6/TDO) (io), 56 PF5 (ADC5/TMS) (io), 57 PF4 (ADC4/TCK) (io), 58 PF3 (ADC3) (io), 59 PF2 (ADC2) (io), 60 PF1 (ADC1) (io), 61 PF0 (ADC0) (io), 62 AREF (power), 63 GND (power), 64 AVCC (power)

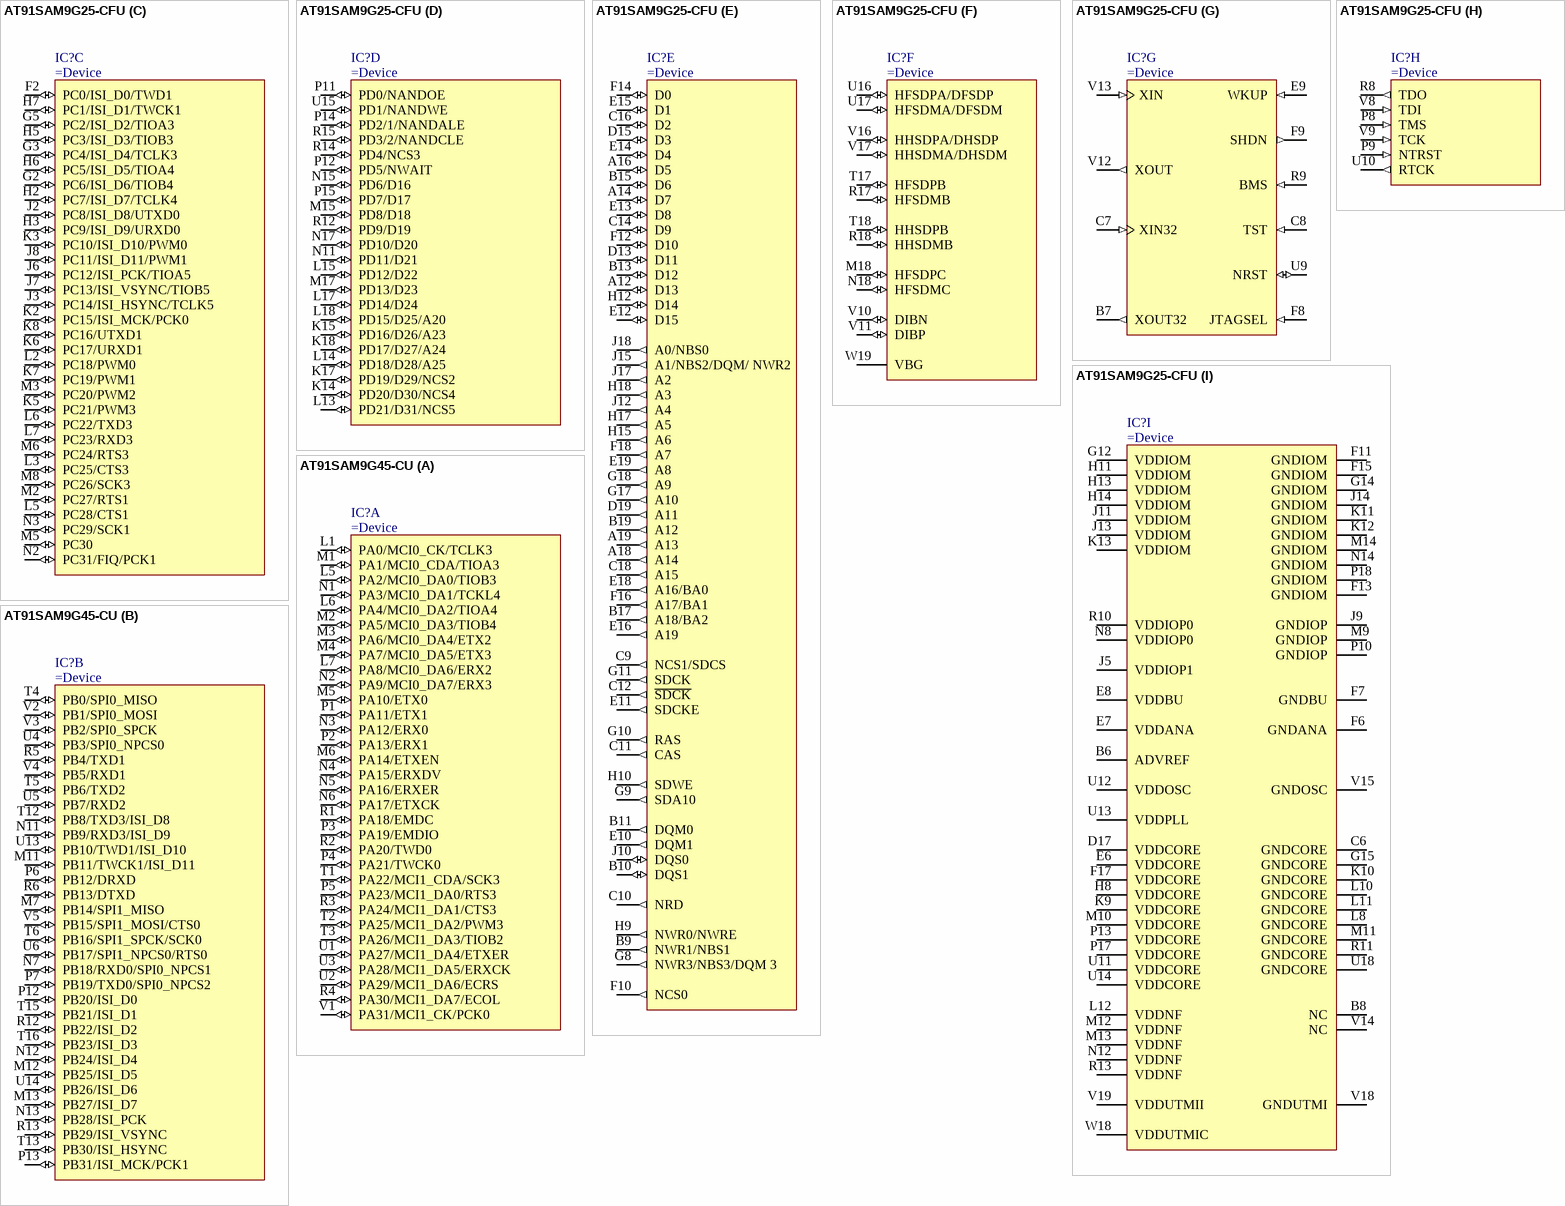
[diagram p36: symbols AT91SAM9G25-CFU to AT91SAM9G45-CU]

## AT91SAM9G25-CFU
designator IC?
AT91 ARM Thumb 32-bit Embedded MPU, 400MHz, 1V, Ethernet, HS USB, LPDDR/DDR2/MLC NAND support, 247-Pin BGA, Industrial Grade (-40°C to 85°C), Pb-Free
part A pins: L9 PA27/TIOB0/RD (io), M7 PA2/RTS0/MCI1_DA1/ETX0 (io), N5 PA4/SCK0/MCI1_DA3/ETXER (io), N6 PA8/RXD2/SPI1_NPCS0 (io), P2 PA0/TXD0/SPI1_NPCS1 (io), P3 PA1/RXD0/SPI0_NPCS2 (io), P5 PA9/DRXD (io), P6 PA23/TIOA2/SPI1_SPCK (io), P7 PA24/TCLK0/TK (io), R2 PA11/SPI0_MISO/MCI1_DA0 (io), R3 PA16/MCI0_CDA (io), R5 PA17/MCI0_CK (io), R6 PA22/TIOA1/SPI1_MOSI (io), R7 PA25/TCLK1/TF (io), T2 PA3/CTS0/MCI1_DA2/ETX1 (io), T3 PA14/SPI0_NPCS0 (io), U2 PA6/RXD1 (io), U3 PA15/MCI0_DA0 (io), U4 PA19/MCI0_DA2 (io), U5 PA20/MCI0_DA3 (io), U6 PA26/TCLK2/TD (io), U7 PA29/TIOB2/RF (io), U8 PA31/TWCK0/SPI1_NPCS2/ETXEN (io), V1 PA5/TXD1 (io), V2 PA10/DTXD (io), V3 PA13/SPI0_SPCK/MCI1_CK (io), V4 PA21/TIOA0/SPI1_MISO (io), V5 PA18/MCI0_DA1 (io), V6 PA28/TIOB1/RK (io), V7 PA30/TWD0/SPI1_NPCS3/EMDC (io), W1 PA7/TXD2/SPI0_NPCS1 (io), W2 PA12/SPI0_MOSI/MCI1_CDA (io)
part B pins: A1 PB14/ERX3/PWM3 (io), A2 PB16/AD5/ECRS (io), B1 PB10/AD11/ETX1/PCK0 (io), B2 PB8/AD9/ETXER (io), B3 PB15/ERXCK (io), B4 PB13/ERX2/PWM2 (io), B5 PB11/ETX2/PWM0 (io), C2 PB9/AD10/ETX0/PCK1 (io), C3 PB7/AD8/ETXEN (io), C4 PB6/AD7/EMDC (io), C5 PB17/AD6/ECOL (io), D2 PB4/ETXCK/TWD2 (io), D3 PB18/IRQ/ADTRG (io), E2 PB3/ERXDV/SPI0_NPCS3 (io), E3 PB2/ERXER/SCK2 (io), E5 PB12/ETX3/PWM1 (io), F3 PB5/EMDIO/TWCK2 (io), F5 PB0/ERX0/RTS2 (io), G6 PB1/ERX1/CTS2 (io)
part C pins: F2 PC0/ISI_D0/TWD1 (io), G2 PC6/ISI_D6/TIOB4 (io), G3 PC4/ISI_D4/TCLK3 (io), G5 PC2/ISI_D2/TIOA3 (io), H2 PC7/ISI_D7/TCLK4 (io), H3 PC9/ISI_D9/URXD0 (io), H5 PC3/ISI_D3/TIOB3 (io), H6 PC5/ISI_D5/TIOA4 (io), H7 PC1/ISI_D1/TWCK1 (io), J2 PC8/ISI_D8/UTXD0 (io), J3 PC14/ISI_HSYNC/TCLK5 (io), J6 PC12/ISI_PCK/TIOA5 (io), J7 PC13/ISI_VSYNC/TIOB5 (io), J8 PC11/ISI_D11/PWM1 (io), K2 PC15/ISI_MCK/PCK0 (io), K3 PC10/ISI_D10/PWM0 (io), K5 PC21/PWM3 (io), K6 PC17/URXD1 (io), K7 PC19/PWM1 (io), K8 PC16/UTXD1 (io), L2 PC18/PWM0 (io), L3 PC25/CTS3 (io), L5 PC28/CTS1 (io), L6 PC22/TXD3 (io), L7 PC23/RXD3 (io), M2 PC27/RTS1 (io), M3 PC20/PWM2 (io), M5 PC30 (io), M6 PC24/RTS3 (io), M8 PC26/SCK3 (io), N2 PC31/FIQ/PCK1 (io), N3 PC29/SCK1 (io)
part D pins: K14 PD20/D30/NCS4 (io), K15 PD16/D26/A23 (io), K17 PD19/D29/NCS2 (io), K18 PD17/D27/A24 (io), L13 PD21/D31/NCS5 (io), L14 PD18/D28/A25 (io), L15 PD12/D22 (io), L17 PD14/D24 (io), L18 PD15/D25/A20 (io), M15 PD8/D18 (io), M17 PD13/D23 (io), N11 PD11/D21 (io), N15 PD6/D16 (io), N17 PD10/D20 (io), P11 PD0/NANDOE (io), P12 PD5/NWAIT (io), P14 PD2/1/NANDALE (io), P15 PD7/D17 (io), R12 PD9/D19 (io), R14 PD4/NCS3 (io), R15 PD3/2/NANDCLE (io), U15 PD1/NANDWE (io)
part E pins: A12 D13 (io), A14 D7 (io), A16 D5 (io), A18 A14 (out), A19 A13 (out), B9 NWR1/NBS1 (out), B10 DQS1 (io), B11 DQM0 (out), B13 D12 (io), B15 D6 (io), B17 A18/BA2 (out), B19 A12 (out), C9 NCS1/SDCS (out), C10 NRD (out), C11 CAS (out), C12 ~{SDCK} (out), C14 D9 (io), C16 D2 (io), C18 A15 (out), D13 D11 (io), D15 D3 (io), D19 A11 (out), E10 DQM1 (out), E11 SDCKE (out), E12 D15 (io), E13 D8 (io), E14 D4 (io), E15 D1 (io), E16 A19 (out), E18 A16/BA0 (out), E19 A8 (out), F10 NCS0 (out), F12 D10 (io), F14 D0 (io), F16 A17/BA1 (out), F18 A7 (out), G8 NWR3/NBS3/DQM 3 (out), G9 SDA10 (out), G10 RAS (out), G11 SDCK (out), G17 A10 (out), G18 A9 (out), H9 NWR0/NWRE (out), H10 SDWE (out), H12 D14 (io), H15 A6 (out), H17 A5 (out), H18 A3 (out), J10 DQS0 (io), J12 A4 (out), J15 A1/NBS2/DQM/ NWR2 (out), J17 A2 (out), J18 A0/NBS0 (out)
part F pins: M18 HFSDPC (io), N18 HFSDMC (io), R17 HFSDMB (io), R18 HHSDMB (io), T17 HFSDPB (io), T18 HHSDPB (io), U16 HFSDPA/DFSDP (io), U17 HFSDMA/DFSDM (io), V10 DIBN (io), V11 DIBP (io), V16 HHSDPA/DHSDP (io), V17 HHSDMA/DHSDM (io), W19 VBG (power)
part G pins: B7 XOUT32 (out), C7 XIN32 (in), C8 TST (in), E9 WKUP (in), F8 JTAGSEL (in), F9 SHDN (out), R9 BMS (in), U9 NRST (io), V12 XOUT (out), V13 XIN (in)
part H pins: P8 TMS (in), P9 NTRST (in), R8 TDO (out), U10 RTCK (out), V8 TDI (in), V9 TCK (in)
part I pins: B6 ADVREF (power), B8 NC, C6 GNDCORE (power), D17 VDDCORE (power), E6 VDDCORE (power), E7 VDDANA (power), E8 VDDBU (power), F6 GNDANA (power), F7 GNDBU (power), F11 GNDIOM (power), F13 GNDIOM (power), F15 GNDIOM (power), F17 VDDCORE (power), G12 VDDIOM (power), G14 GNDIOM (power), G15 GNDCORE (power), H8 VDDCORE (power), H11 VDDIOM (power), H13 VDDIOM (power), H14 VDDIOM (power), J5 VDDIOP1 (power), J9 GNDIOP (power), J11 VDDIOM (power), J13 VDDIOM (power), J14 GNDIOM (power), K9 VDDCORE (power), K10 GNDCORE (power), K11 GNDIOM (power), K12 GNDIOM (power), K13 VDDIOM (power), L8 GNDCORE (power), L10 GNDCORE (power), L11 GNDCORE (power), L12 VDDNF (power), M9 GNDIOP (power), M10 VDDCORE (power), M11 GNDCORE (power), M12 VDDNF (power), M13 VDDNF (power), M14 GNDIOM (power), N8 VDDIOP0 (power), N12 VDDNF (power), N14 GNDIOM (power), P10 GNDIOP (power), P13 VDDCORE (power), P17 VDDCORE (power), P18 GNDIOM (power), R10 VDDIOP0 (power), R11 GNDCORE (power), R13 VDDNF (power), U11 VDDCORE (power), U12 VDDOSC (power), U13 VDDPLL (power), U14 VDDCORE (power), U18 GNDCORE (power), V14 NC, V15 GNDOSC (power), V18 GNDUTMI (power), V19 VDDUTMII (power), W18 VDDUTMIC (power)

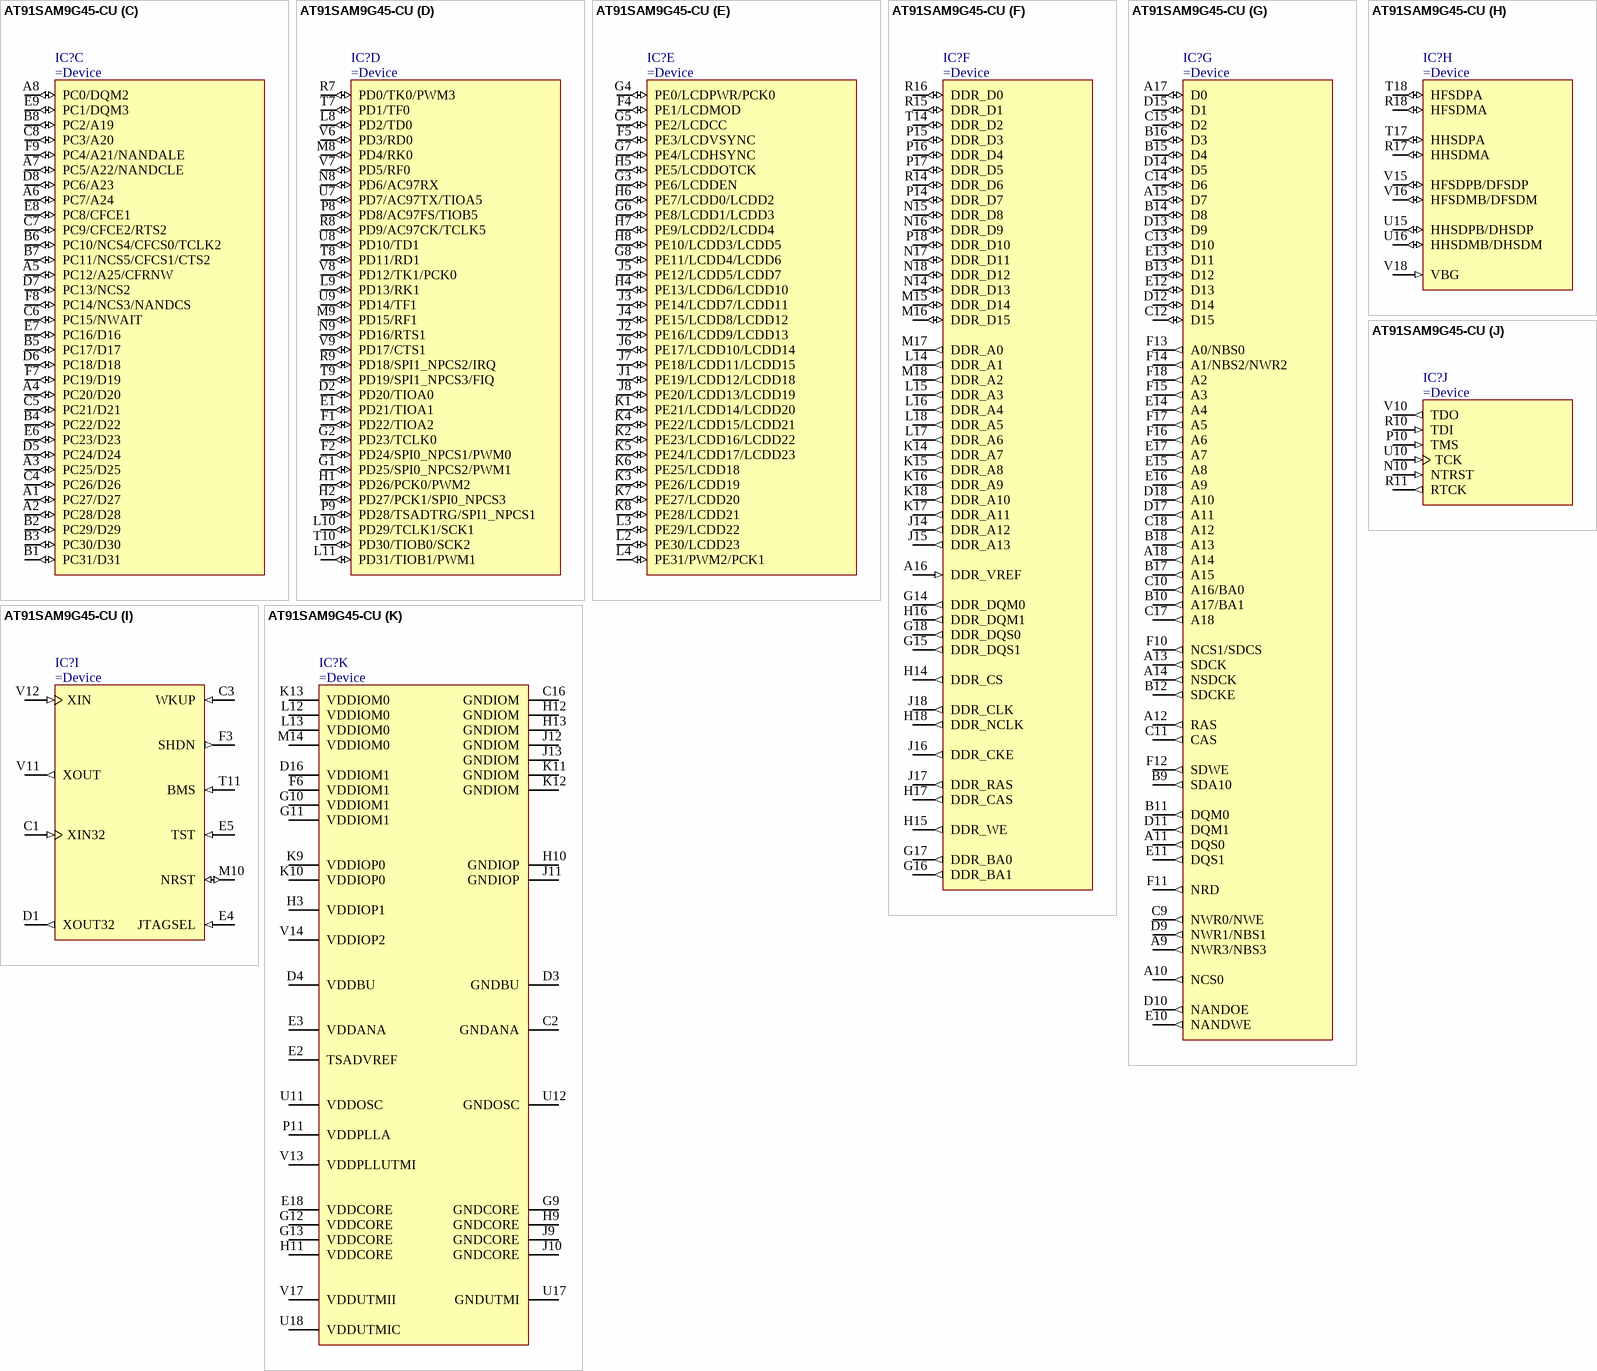
[diagram p37: symbol AT91SAM9G45-CU]

## AT91SAM9G45-CU
designator IC?
AT91 ARM Thumb 32-bit Embedded MPU, 400MHz, 64KB ROM, 64KB SRAM, EBI, E-MAC, HS USB, 24-ch. PDC, 324-Pin TFBGA, Industrial Grade (-40°C to 85°C), Pb-Free
part A pins: L1 PA0/MCI0_CK/TCLK3 (io), L5 PA2/MCI0_DA0/TIOB3 (io), L6 PA4/MCI0_DA2/TIOA4 (io), L7 PA8/MCI0_DA6/ERX2 (io), M1 PA1/MCI0_CDA/TIOA3 (io), M2 PA5/MCI0_DA3/TIOB4 (io), M3 PA6/MCI0_DA4/ETX2 (io), M4 PA7/MCI0_DA5/ETX3 (io), M5 PA10/ETX0 (io), M6 PA14/ETXEN (io), N1 PA3/MCI0_DA1/TCKL4 (io), N2 PA9/MCI0_DA7/ERX3 (io), N3 PA12/ERX0 (io), N4 PA15/ERXDV (io), N5 PA16/ERXER (io), N6 PA17/ETXCK (io), P1 PA11/ETX1 (io), P2 PA13/ERX1 (io), P3 PA19/EMDIO (io), P4 PA21/TWCK0 (io), P5 PA23/MCI1_DA0/RTS3 (io), R1 PA18/EMDC (io), R2 PA20/TWD0 (io), R3 PA24/MCI1_DA1/CTS3 (io), R4 PA30/MCI1_DA7/ECOL (io), T1 PA22/MCI1_CDA/SCK3 (io), T2 PA25/MCI1_DA2/PWM3 (io), T3 PA26/MCI1_DA3/TIOB2 (io), U1 PA27/MCI1_DA4/ETXER (io), U2 PA29/MCI1_DA6/ECRS (io), U3 PA28/MCI1_DA5/ERXCK (io), V1 PA31/MCI1_CK/PCK0 (io)
part B pins: M7 PB14/SPI1_MISO (io), M11 PB11/TWCK1/ISI_D11 (io), M12 PB25/ISI_D5 (io), M13 PB27/ISI_D7 (io), N7 PB18/RXD0/SPI0_NPCS1 (io), N11 PB9/RXD3/ISI_D9 (io), N12 PB24/ISI_D4 (io), N13 PB28/ISI_PCK (io), P6 PB12/DRXD (io), P7 PB19/TXD0/SPI0_NPCS2 (io), P12 PB20/ISI_D0 (io), P13 PB31/ISI_MCK/PCK1 (io), R5 PB4/TXD1 (io), R6 PB13/DTXD (io), R12 PB22/ISI_D2 (io), R13 PB29/ISI_VSYNC (io), T4 PB0/SPI0_MISO (io), T5 PB6/TXD2 (io), T6 PB16/SPI1_SPCK/SCK0 (io), T12 PB8/TXD3/ISI_D8 (io), T13 PB30/ISI_HSYNC (io), T15 PB21/ISI_D1 (io), T16 PB23/ISI_D3 (io), U4 PB3/SPI0_NPCS0 (io), U5 PB7/RXD2 (io), U6 PB17/SPI1_NPCS0/RTS0 (io), U13 PB10/TWD1/ISI_D10 (io), U14 PB26/ISI_D6 (io), V2 PB1/SPI0_MOSI (io), V3 PB2/SPI0_SPCK (io), V4 PB5/RXD1 (io), V5 PB15/SPI1_MOSI/CTS0 (io)
part C pins: A1 PC27/D27 (io), A2 PC28/D28 (io), A3 PC25/D25 (io), A4 PC20/D20 (io), A5 PC12/A25/CFRNW (io), A6 PC7/A24 (io), A7 PC5/A22/NANDCLE (io), A8 PC0/DQM2 (io), B1 PC31/D31 (io), B2 PC29/D29 (io), B3 PC30/D30 (io), B4 PC22/D22 (io), B5 PC17/D17 (io), B6 PC10/NCS4/CFCS0/TCLK2 (io), B7 PC11/NCS5/CFCS1/CTS2 (io), B8 PC2/A19 (io), C4 PC26/D26 (io), C5 PC21/D21 (io), C6 PC15/NWAIT (io), C7 PC9/CFCE2/RTS2 (io), C8 PC3/A20 (io), D5 PC24/D24 (io), D6 PC18/D18 (io), D7 PC13/NCS2 (io), D8 PC6/A23 (io), E6 PC23/D23 (io), E7 PC16/D16 (io), E8 PC8/CFCE1 (io), E9 PC1/DQM3 (io), F7 PC19/D19 (io), F8 PC14/NCS3/NANDCS (io), F9 PC4/A21/NANDALE (io)
part D pins: D2 PD20/TIOA0 (io), E1 PD21/TIOA1 (io), F1 PD22/TIOA2 (io), F2 PD24/SPI0_NPCS1/PWM0 (io), G1 PD25/SPI0_NPCS2/PWM1 (io), G2 PD23/TCLK0 (io), H1 PD26/PCK0/PWM2 (io), H2 PD27/PCK1/SPI0_NPCS3 (io), L8 PD2/TD0 (io), L9 PD13/RK1 (io), L10 PD29/TCLK1/SCK1 (io), L11 PD31/TIOB1/PWM1 (io), M8 PD4/RK0 (io), M9 PD15/RF1 (io), N8 PD6/AC97RX (io), N9 PD16/RTS1 (io), P8 PD8/AC97FS/TIOB5 (io), P9 PD28/TSADTRG/SPI1_NPCS1 (io), R7 PD0/TK0/PWM3 (io), R8 PD9/AC97CK/TCLK5 (io), R9 PD18/SPI1_NPCS2/IRQ (io), T7 PD1/TF0 (io), T8 PD11/RD1 (io), T9 PD19/SPI1_NPCS3/FIQ (io), T10 PD30/TIOB0/SCK2 (io), U7 PD7/AC97TX/TIOA5 (io), U8 PD10/TD1 (io), U9 PD14/TF1 (io), V6 PD3/RD0 (io), V7 PD5/RF0 (io), V8 PD12/TK1/PCK0 (io), V9 PD17/CTS1 (io)
part E pins: F4 PE1/LCDMOD (io), F5 PE3/LCDVSYNC (io), G3 PE6/LCDDEN (io), G4 PE0/LCDPWR/PCK0 (io), G5 PE2/LCDCC (io), G6 PE8/LCDD1/LCDD3 (io), G7 PE4/LCDHSYNC (io), G8 PE11/LCDD4/LCDD6 (io), H4 PE13/LCDD6/LCDD10 (io), H5 PE5/LCDDOTCK (io), H6 PE7/LCDD0/LCDD2 (io), H7 PE9/LCDD2/LCDD4 (io), H8 PE10/LCDD3/LCDD5 (io), J1 PE19/LCDD12/LCDD18 (io), J2 PE16/LCDD9/LCDD13 (io), J3 PE14/LCDD7/LCDD11 (io), J4 PE15/LCDD8/LCDD12 (io), J5 PE12/LCDD5/LCDD7 (io), J6 PE17/LCDD10/LCDD14 (io), J7 PE18/LCDD11/LCDD15 (io), J8 PE20/LCDD13/LCDD19 (io), K1 PE21/LCDD14/LCDD20 (io), K2 PE23/LCDD16/LCDD22 (io), K3 PE26/LCDD19 (io), K4 PE22/LCDD15/LCDD21 (io), K5 PE24/LCDD17/LCDD23 (io), K6 PE25/LCDD18 (io), K7 PE27/LCDD20 (io), K8 PE28/LCDD21 (io), L2 PE30/LCDD23 (io), L3 PE29/LCDD22 (io), L4 PE31/PWM2/PCK1 (io)
part F pins: A16 DDR_VREF (in), G14 DDR_DQM0 (out), G15 DDR_DQS1 (out), G16 DDR_BA1 (out), G17 DDR_BA0 (out), G18 DDR_DQS0 (out), H14 DDR_CS (out), H15 DDR_WE (out), H16 DDR_DQM1 (out), H17 DDR_CAS (out), H18 DDR_NCLK (out), J14 DDR_A12 (out), J15 DDR_A13 (out), J16 DDR_CKE (out), J17 DDR_RAS (out), J18 DDR_CLK (out), K14 DDR_A7 (out), K15 DDR_A8 (out), K16 DDR_A9 (out), K17 DDR_A11 (out), K18 DDR_A10 (out), L14 DDR_A1 (out), L15 DDR_A3 (out), L16 DDR_A4 (out), L17 DDR_A6 (out), L18 DDR_A5 (out), M15 DDR_D14 (io), M16 DDR_D15 (io), M17 DDR_A0 (out), M18 DDR_A2 (out), N14 DDR_D13 (io), N15 DDR_D8 (io), N16 DDR_D9 (io), N17 DDR_D11 (io), N18 DDR_D12 (io), P14 DDR_D7 (io), P15 DDR_D3 (io), P16 DDR_D4 (io), P17 DDR_D5 (io), P18 DDR_D10 (io), R14 DDR_D6 (io), R15 DDR_D1 (io), R16 DDR_D0 (io), T14 DDR_D2 (io)
part G pins: A9 NWR3/NBS3 (out), A10 NCS0 (out), A11 DQS0 (out), A12 RAS (out), A13 SDCK (out), A14 NSDCK (out), A15 D7 (io), A17 D0 (io), A18 A14 (out), B9 SDA10 (out), B10 A17/BA1 (out), B11 DQM0 (out), B12 SDCKE (out), B13 D12 (io), B14 D8 (io), B15 D4 (io), B16 D3 (io), B17 A15 (out), B18 A13 (out), C9 NWR0/NWE (out), C10 A16/BA0 (out), C11 CAS (out), C12 D15 (io), C13 D10 (io), C14 D6 (io), C15 D2 (io), C17 A18 (out), C18 A12 (out), D9 NWR1/NBS1 (out), D10 NANDOE (out), D11 DQM1 (out), D12 D14 (io), D13 D9 (io), D14 D5 (io), D15 D1 (io), D17 A11 (out), D18 A10 (out), E10 NANDWE (out), E11 DQS1 (out), E12 D13 (io), E13 D11 (io), E14 A4 (out), E15 A8 (out), E16 A9 (out), E17 A7 (out), F10 NCS1/SDCS (out), F11 NRD (out), F12 SDWE (out), F13 A0/NBS0 (out), F14 A1/NBS2/NWR2 (out), F15 A3 (out), F16 A6 (out), F17 A5 (out), F18 A2 (out)
part H pins: R17 HHSDMA (io), R18 HFSDMA (io), T17 HHSDPA (io), T18 HFSDPA (io), U15 HHSDPB/DHSDP (io), U16 HHSDMB/DHSDM (io), V15 HFSDPB/DFSDP (io), V16 HFSDMB/DFSDM (io), V18 VBG (in)
part I pins: C1 XIN32 (in), C3 WKUP (in), D1 XOUT32 (out), E4 JTAGSEL (in), E5 TST (in), F3 SHDN (out), M10 NRST (io), T11 BMS (in), V11 XOUT (out), V12 XIN (in)
part J pins: N10 NTRST (in), P10 TMS (in), R10 TDI (in), R11 RTCK (out), U10 TCK (in), V10 TDO (out)
part K pins: C2 GNDANA (power), C16 GNDIOM (power), D3 GNDBU (power), D4 VDDBU (power), D16 VDDIOM1 (power), E2 TSADVREF (power), E3 VDDANA (power), E18 VDDCORE (power), F6 VDDIOM1 (power), G9 GNDCORE (power), G10 VDDIOM1 (power), G11 VDDIOM1 (power), G12 VDDCORE (power), G13 VDDCORE (power), H3 VDDIOP1 (power), H9 GNDCORE (power), H10 GNDIOP (power), H11 VDDCORE (power), H12 GNDIOM (power), H13 GNDIOM (power), J9 GNDCORE (power), J10 GNDCORE (power), J11 GNDIOP (power), J12 GNDIOM (power), J13 GNDIOM (power), K9 VDDIOP0 (power), K10 VDDIOP0 (power), K11 GNDIOM (power), K12 GNDIOM (power), K13 VDDIOM0 (power), L12 VDDIOM0 (power), L13 VDDIOM0 (power), M14 VDDIOM0 (power), P11 VDDPLLA (power), U11 VDDOSC (power), U12 GNDOSC (power), U17 GNDUTMI (power), U18 VDDUTMIC (power), V13 VDDPLLUTMI (power), V14 VDDIOP2 (power), V17 VDDUTMII (power)

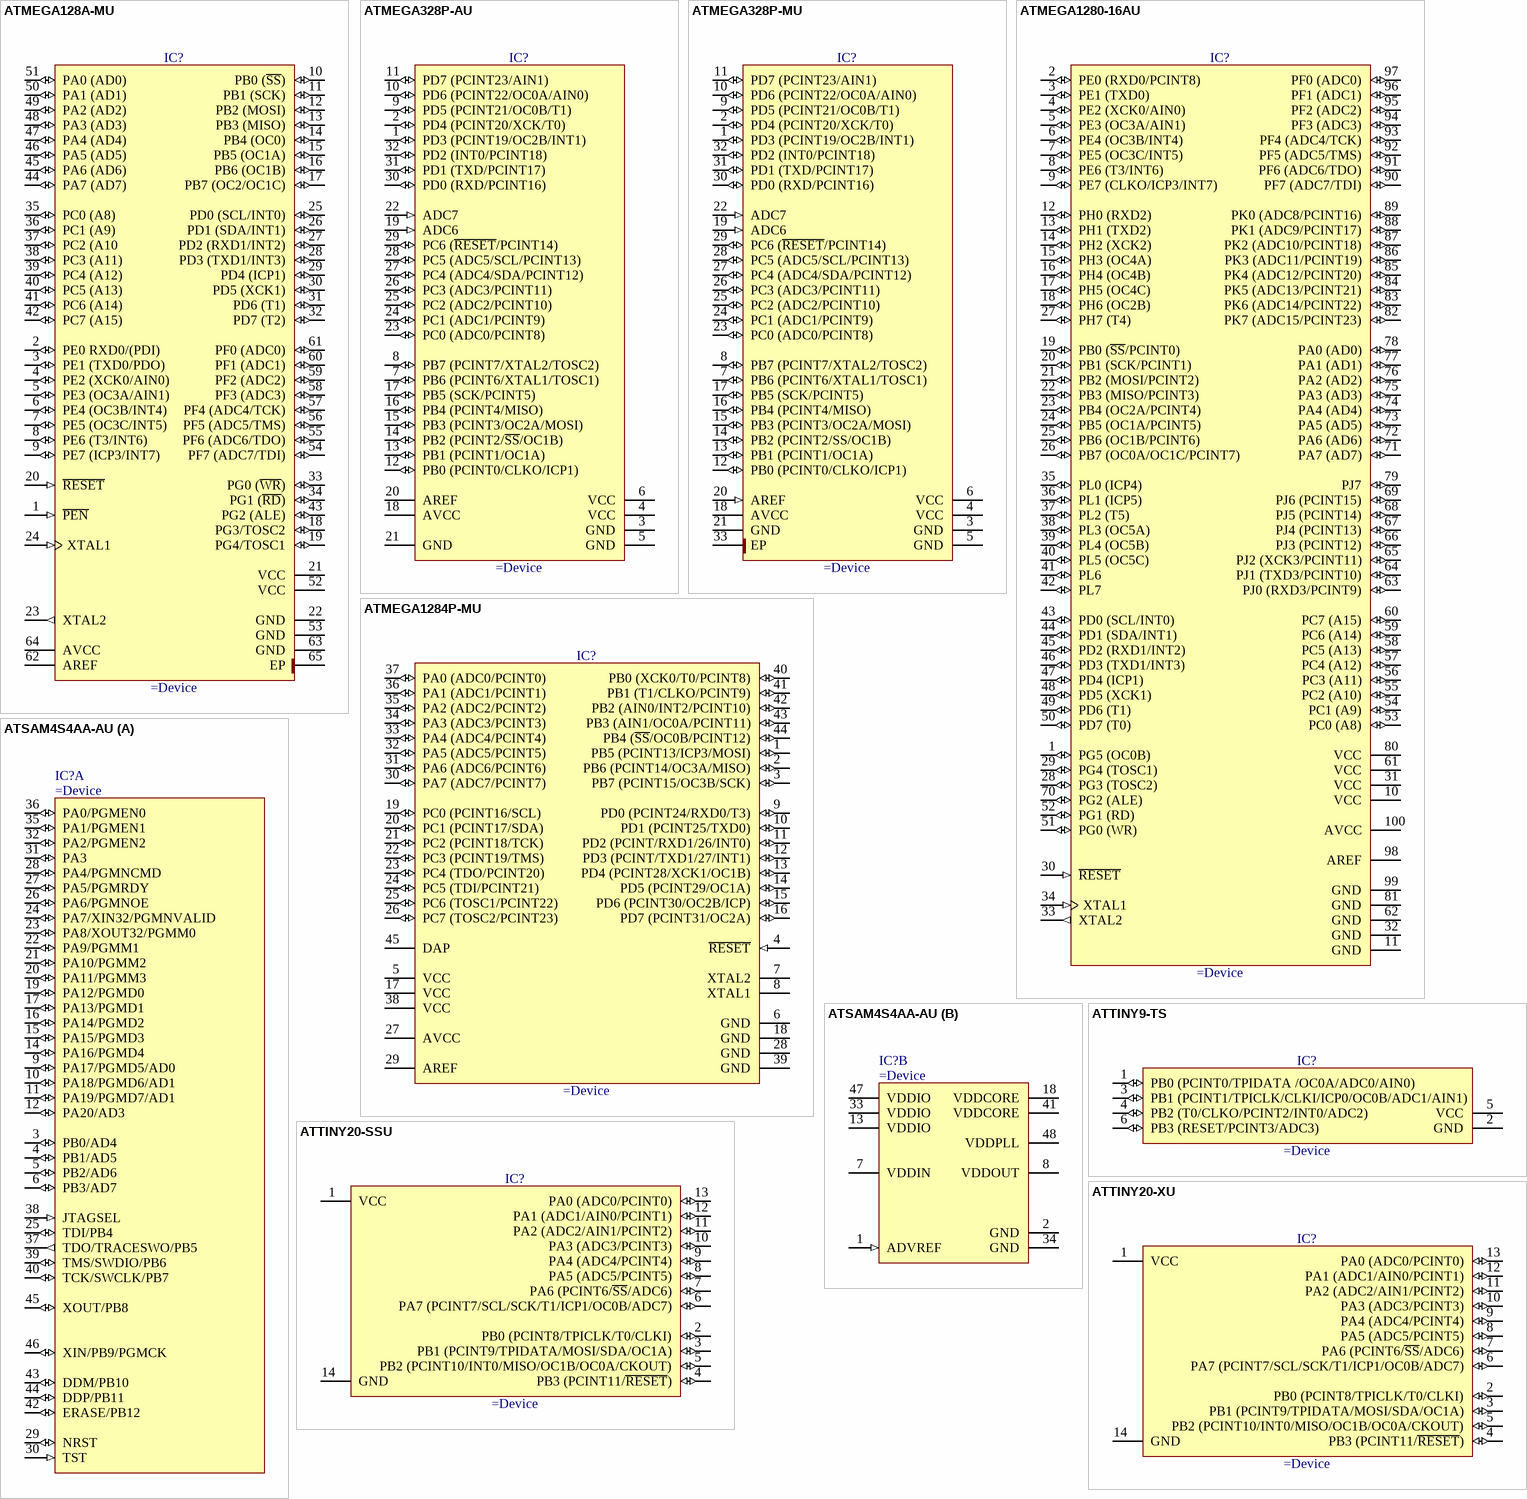
[diagram p38: symbols ATMEGA128A-MU to ATTINY20-XU]

## ATMEGA128A-MU
designator IC?
8-bit AVR Microcontroller, 2.7-5.5V, 16MHz, 128KB Flash, 4KB EEPROM, 4KB SRAM, 64-pin MLF, Industrial Grade (-40°C to 85°C)
pins: 1 ~{PEN} (in), 2 PE0 RXD0/(PDI) (io), 3 PE1 (TXD0/PDO) (io), 4 PE2 (XCK0/AIN0) (io), 5 PE3 (OC3A/AIN1) (io), 6 PE4 (OC3B/INT4) (io), 7 PE5 (OC3C/INT5) (io), 8 PE6 (T3/INT6) (io), 9 PE7 (ICP3/INT7) (io), 10 PB0 (~{SS}) (io), 11 PB1 (SCK) (io), 12 PB2 (MOSI) (io), 13 PB3 (MISO) (io), 14 PB4 (OC0) (io), 15 PB5 (OC1A) (io), 16 PB6 (OC1B) (io), 17 PB7 (OC2/OC1C) (io), 18 PG3/TOSC2 (io), 19 PG4/TOSC1 (io), 20 ~{RESET} (in), 21 VCC (power), 22 GND (power), 23 XTAL2 (out), 24 XTAL1 (in), 25 PD0 (SCL/INT0) (io), 26 PD1 (SDA/INT1) (io), 27 PD2 (RXD1/INT2) (io), 28 PD3 (TXD1/INT3) (io), 29 PD4 (ICP1) (io), 30 PD5 (XCK1) (io), 31 PD6 (T1) (io), 32 PD7 (T2) (io), 33 PG0 (~{WR}) (io), 34 PG1 (~{RD}) (io), 35 PC0 (A8) (io), 36 PC1 (A9) (io), 37 PC2 (A10 (io), 38 PC3 (A11) (io), 39 PC4 (A12) (io), 40 PC5 (A13) (io), 41 PC6 (A14) (io), 42 PC7 (A15) (io), 43 PG2 (ALE) (io), 44 PA7 (AD7) (io), 45 PA6 (AD6) (io), 46 PA5 (AD5) (io), 47 PA4 (AD4) (io), 48 PA3 (AD3) (io), 49 PA2 (AD2) (io), 50 PA1 (AD1) (io), 51 PA0 (AD0) (io), 52 VCC (power), 53 GND (power), 54 PF7 (ADC7/TDI) (io), 55 PF6 (ADC6/TDO) (io), 56 PF5 (ADC5/TMS) (io), 57 PF4 (ADC4/TCK) (io), 58 PF3 (ADC3) (io), 59 PF2 (ADC2) (io), 60 PF1 (ADC1) (io), 61 PF0 (ADC0) (io), 62 AREF (power), 63 GND (power), 64 AVCC (power), 65 EP

## ATMEGA328P-AU
designator IC?
8-bit AVR Microcontroller, 32KB Flash, 1KB EEPROM, 2KB SRAM, 32-pin TQFP, Industrial Grade (-40°C to 85°C)
pins: 1 PD3 (PCINT19/OC2B/INT1) (io), 2 PD4 (PCINT20/XCK/T0) (io), 3 GND (power), 4 VCC (power), 5 GND (power), 6 VCC (power), 7 PB6 (PCINT6/XTAL1/TOSC1) (io), 8 PB7 (PCINT7/XTAL2/TOSC2) (io), 9 PD5 (PCINT21/OC0B/T1) (io), 10 PD6 (PCINT22/OC0A/AIN0) (io), 11 PD7 (PCINT23/AIN1) (io), 12 PB0 (PCINT0/CLKO/ICP1) (io), 13 PB1 (PCINT1/OC1A) (io), 14 PB2 (PCINT2/~{SS}/OC1B) (io), 15 PB3 (PCINT3/OC2A/MOSI) (io), 16 PB4 (PCINT4/MISO) (io), 17 PB5 (SCK/PCINT5) (io), 18 AVCC (power), 19 ADC6 (in), 20 AREF, 21 GND (power), 22 ADC7 (in), 23 PC0 (ADC0/PCINT8) (io), 24 PC1 (ADC1/PCINT9) (io), 25 PC2 (ADC2/PCINT10) (io), 26 PC3 (ADC3/PCINT11) (io), 27 PC4 (ADC4/SDA/PCINT12) (io), 28 PC5 (ADC5/SCL/PCINT13) (io), 29 PC6 (~{RESET}/PCINT14) (io), 30 PD0 (RXD/PCINT16) (io), 31 PD1 (TXD/PCINT17) (io), 32 PD2 (INT0/PCINT18) (io)

## ATMEGA328P-MU
designator IC?
8-bit AVR 20MHz Microcontroller With 32K Bytes In-System  Programmable  Flash
pins: 1 PD3 (PCINT19/OC2B/INT1) (io), 2 PD4 (PCINT20/XCK/T0) (io), 3 GND (power), 4 VCC (power), 5 GND (power), 6 VCC (power), 7 PB6 (PCINT6/XTAL1/TOSC1) (io), 8 PB7 (PCINT7/XTAL2/TOSC2) (io), 9 PD5 (PCINT21/OC0B/T1) (io), 10 PD6 (PCINT22/OC0A/AIN0) (io), 11 PD7 (PCINT23/AIN1) (io), 12 PB0 (PCINT0/CLKO/ICP1) (io), 13 PB1 (PCINT1/OC1A) (io), 14 PB2 (PCINT2/SS/OC1B) (io), 15 PB3 (PCINT3/OC2A/MOSI) (io), 16 PB4 (PCINT4/MISO) (io), 17 PB5 (SCK/PCINT5) (io), 18 AVCC (power), 19 ADC6 (in), 20 AREF (in), 21 GND (power), 22 ADC7 (in), 23 PC0 (ADC0/PCINT8) (io), 24 PC1 (ADC1/PCINT9) (io), 25 PC2 (ADC2/PCINT10) (io), 26 PC3 (ADC3/PCINT11) (io), 27 PC4 (ADC4/SDA/PCINT12) (io), 28 PC5 (ADC5/SCL/PCINT13) (io), 29 PC6 (~{RESET}/PCINT14) (io), 30 PD0 (RXD/PCINT16) (io), 31 PD1 (TXD/PCINT17) (io), 32 PD2 (INT0/PCINT18) (io), 33 EP (power)

## ATMEGA1280-16AU
designator IC?
8-bit AVR Microcontroller, 2.7-5.5V, 8MHz, 128KB Flash, 4KB EEPROM, 8KB SRAM, 86 GPIO pins, 100-pin TQFP, Industrial Grade (-40°C to 85°C), Pb-Free
pins: 1 PG5 (OC0B) (io), 2 PE0 (RXD0/PCINT8) (io), 3 PE1 (TXD0) (io), 4 PE2 (XCK0/AIN0) (io), 5 PE3 (OC3A/AIN1) (io), 6 PE4 (OC3B/INT4) (io), 7 PE5 (OC3C/INT5) (io), 8 PE6 (T3/INT6) (io), 9 PE7 (CLKO/ICP3/INT7) (io), 10 VCC (power), 11 GND (power), 12 PH0 (RXD2) (io), 13 PH1 (TXD2) (io), 14 PH2 (XCK2) (io), 15 PH3 (OC4A) (io), 16 PH4 (OC4B) (io), 17 PH5 (OC4C) (io), 18 PH6 (OC2B) (io), 19 PB0 (~{SS}/PCINT0) (io), 20 PB1 (SCK/PCINT1) (io), 21 PB2 (MOSI/PCINT2) (io), 22 PB3 (MISO/PCINT3) (io), 23 PB4 (OC2A/PCINT4) (io), 24 PB5 (OC1A/PCINT5) (io), 25 PB6 (OC1B/PCINT6) (io), 26 PB7 (OC0A/OC1C/PCINT7) (io), 27 PH7 (T4) (io), 28 PG3 (TOSC2) (io), 29 PG4 (TOSC1) (io), 30 ~{RESET} (in), 31 VCC (power), 32 GND (power), 33 XTAL2 (out), 34 XTAL1 (in), 35 PL0 (ICP4) (io), 36 PL1 (ICP5) (io), 37 PL2 (T5) (io), 38 PL3 (OC5A) (io), 39 PL4 (OC5B) (io), 40 PL5 (OC5C) (io), 41 PL6 (io), 42 PL7 (io), 43 PD0 (SCL/INT0) (io), 44 PD1 (SDA/INT1) (io), 45 PD2 (RXD1/INT2) (io), 46 PD3 (TXD1/INT3) (io), 47 PD4 (ICP1) (io), 48 PD5 (XCK1) (io), 49 PD6 (T1) (io), 50 PD7 (T0) (io), 51 PG0 (WR) (io), 52 PG1 (RD) (io), 53 PC0 (A8) (io), 54 PC1 (A9) (io), 55 PC2 (A10) (io), 56 PC3 (A11) (io), 57 PC4 (A12) (io), 58 PC5 (A13) (io), 59 PC6 (A14) (io), 60 PC7 (A15) (io), 61 VCC (power), 62 GND (power), 63 PJ0 (RXD3/PCINT9) (io), 64 PJ1 (TXD3/PCINT10) (io), 65 PJ2 (XCK3/PCINT11) (io), 66 PJ3 (PCINT12) (io), 67 PJ4 (PCINT13) (io), 68 PJ5 (PCINT14) (io), 69 PJ6 (PCINT15) (io), 70 PG2 (ALE) (io), 71 PA7 (AD7) (io), 72 PA6 (AD6) (io), 73 PA5 (AD5) (io), 74 PA4 (AD4) (io), 75 PA3 (AD3) (io), 76 PA2 (AD2) (io), 77 PA1 (AD1) (io), 78 PA0 (AD0) (io), 79 PJ7 (io), 80 VCC (power), 81 GND (power), 82 PK7 (ADC15/PCINT23) (io), 83 PK6 (ADC14/PCINT22) (io), 84 PK5 (ADC13/PCINT21) (io), 85 PK4 (ADC12/PCINT20) (io), 86 PK3 (ADC11/PCINT19) (io), 87 PK2 (ADC10/PCINT18) (io), 88 PK1 (ADC9/PCINT17) (io), 89 PK0 (ADC8/PCINT16) (io), 90 PF7 (ADC7/TDI) (io), 91 PF6 (ADC6/TDO) (io), 92 PF5 (ADC5/TMS) (io), 93 PF4 (ADC4/TCK) (io), 94 PF3 (ADC3) (io), 95 PF2 (ADC2) (io), 96 PF1 (ADC1) (io), 97 PF0 (ADC0) (io), 98 AREF (power), 99 GND (power), 100 AVCC (power)

## ATMEGA1284P-MU
designator IC?
8-bit AVR Microcontroller, 128K Bytes In-System Programmable Flash, Industrial Grade (-40°C to 85°C)
pins: 1 PB5 (PCINT13/ICP3/MOSI) (io), 2 PB6 (PCINT14/OC3A/MISO) (io), 3 PB7 (PCINT15/OC3B/SCK) (io), 4 ~{RESET} (in), 5 VCC (power), 6 GND (power), 7 XTAL2, 8 XTAL1, 9 PD0 (PCINT24/RXD0/T3) (io), 10 PD1 (PCINT25/TXD0) (io), 11 PD2 (PCINT/RXD1/26/INT0) (io), 12 PD3 (PCINT/TXD1/27/INT1) (io), 13 PD4 (PCINT28/XCK1/OC1B) (io), 14 PD5 (PCINT29/OC1A) (io), 15 PD6 (PCINT30/OC2B/ICP) (io), 16 PD7 (PCINT31/OC2A) (io), 17 VCC (power), 18 GND (power), 19 PC0 (PCINT16/SCL) (io), 20 PC1 (PCINT17/SDA) (io), 21 PC2 (PCINT18/TCK) (io), 22 PC3 (PCINT19/TMS) (io), 23 PC4 (TDO/PCINT20) (io), 24 PC5 (TDI/PCINT21) (io), 25 PC6 (TOSC1/PCINT22) (io), 26 PC7 (TOSC2/PCINT23) (io), 27 AVCC (power), 28 GND (power), 29 AREF (power), 30 PA7 (ADC7/PCINT7) (io), 31 PA6 (ADC6/PCINT6) (io), 32 PA5 (ADC5/PCINT5) (io), 33 PA4 (ADC4/PCINT4) (io), 34 PA3 (ADC3/PCINT3) (io), 35 PA2 (ADC2/PCINT2) (io), 36 PA1 (ADC1/PCINT1) (io), 37 PA0 (ADC0/PCINT0) (io), 38 VCC (power), 39 GND (power), 40 PB0 (XCK0/T0/PCINT8) (io), 41 PB1 (T1/CLKO/PCINT9) (io), 42 PB2 (AIN0/INT2/PCINT10) (io), 43 PB3 (AIN1/OC0A/PCINT11) (io), 44 PB4 (~{SS}/OC0B/PCINT12) (io), 45 DAP (power)

## ATSAM4S4AA-AU
designator IC?
32-bit ARM®-based Cortex®-M4 core Microcontroller, 1.62V to 3.6V, 120MHz, 256KB Flash, 64KB of SRAM, 48 QFP, Industrial Grade (-40°C to 85°C)
part A pins: 3 PB0/AD4 (io), 4 PB1/AD5 (io), 5 PB2/AD6 (io), 6 PB3/AD7 (io), 9 PA17/PGMD5/AD0 (io), 10 PA18/PGMD6/AD1 (io), 11 PA19/PGMD7/AD1 (io), 12 PA20/AD3 (io), 14 PA16/PGMD4 (io), 15 PA15/PGMD3 (io), 16 PA14/PGMD2 (io), 17 PA13/PGMD1 (io), 19 PA12/PGMD0 (io), 20 PA11/PGMM3 (io), 21 PA10/PGMM2 (io), 22 PA9/PGMM1 (io), 23 PA8/XOUT32/PGMM0 (io), 24 PA7/XIN32/PGMNVALID (io), 25 TDI/PB4 (io), 26 PA6/PGMNOE (io), 27 PA5/PGMRDY (io), 28 PA4/PGMNCMD (io), 29 NRST (io), 30 TST (in), 31 PA3 (io), 32 PA2/PGMEN2 (io), 35 PA1/PGMEN1 (io), 36 PA0/PGMEN0 (io), 37 TDO/TRACESWO/PB5 (out), 38 JTAGSEL (in), 39 TMS/SWDIO/PB6 (io), 40 TCK/SWCLK/PB7 (io), 42 ERASE/PB12 (io), 43 DDM/PB10 (io), 44 DDP/PB11 (io), 45 XOUT/PB8 (io), 46 XIN/PB9/PGMCK (io)
part B pins: 1 ADVREF (in), 2 GND (power), 7 VDDIN (power), 8 VDDOUT (power), 13 VDDIO (power), 18 VDDCORE (power), 33 VDDIO (power), 34 GND (power), 41 VDDCORE (power), 47 VDDIO (power), 48 VDDPLL (power)

## ATTINY9-TS
designator IC?
8-bit AVR Microcontroller with 1024 Bytes In-System Programmable Flash
pins: 1 PB0 (PCINT0/TPIDATA /OC0A/ADC0/AIN0) (io), 2 GND (power), 3 PB1 (PCINT1/TPICLK/CLKI/ICP0/OC0B/ADC1/AIN1) (io), 4 PB2 (T0/CLKO/PCINT2/INT0/ADC2) (io), 5 VCC (power), 6 PB3 (RESET/PCINT3/ADC3) (io)

## ATTINY20-SSU
designator IC?
8-bit AVR Microcontroller, 1.8-5.5V, 2KB Flash, 128 Bytes SRAM, 12 GPIO pins, 14-pin SOIC, Industrial Grade (-40°C to 85°C), Pb-Free
pins: 1 VCC (power), 2 PB0 (PCINT8/TPICLK/T0/CLKI) (io), 3 PB1 (PCINT9/TPIDATA/MOSI/SDA/OC1A) (io), 4 PB3 (PCINT11/~{RESET}) (io), 5 PB2 (PCINT10/INT0/MISO/OC1B/OC0A/CKOUT) (io), 6 PA7 (PCINT7/SCL/SCK/T1/ICP1/OC0B/ADC7) (io), 7 PA6 (PCINT6/~{SS}/ADC6) (io), 8 PA5 (ADC5/PCINT5) (io), 9 PA4 (ADC4/PCINT4) (io), 10 PA3 (ADC3/PCINT3) (io), 11 PA2 (ADC2/AIN1/PCINT2) (io), 12 PA1 (ADC1/AIN0/PCINT1) (io), 13 PA0 (ADC0/PCINT0) (io), 14 GND (power)

## ATTINY20-XU
designator IC?
8-bit AVR Microcontroller, 1.8-5.5V, 12MHz, 2KB Flash, 128 Bytes SRAM, 12 GPIO pins, 14-pin TSSOP, Industrial Grade (-40°C to 85°C), Pb-Free
pins: 1 VCC (power), 2 PB0 (PCINT8/TPICLK/T0/CLKI) (io), 3 PB1 (PCINT9/TPIDATA/MOSI/SDA/OC1A) (io), 4 PB3 (PCINT11/~{RESET}) (io), 5 PB2 (PCINT10/INT0/MISO/OC1B/OC0A/CKOUT) (io), 6 PA7 (PCINT7/SCL/SCK/T1/ICP1/OC0B/ADC7) (io), 7 PA6 (PCINT6/~{SS}/ADC6) (io), 8 PA5 (ADC5/PCINT5) (io), 9 PA4 (ADC4/PCINT4) (io), 10 PA3 (ADC3/PCINT3) (io), 11 PA2 (ADC2/AIN1/PCINT2) (io), 12 PA1 (ADC1/AIN0/PCINT1) (io), 13 PA0 (ADC0/PCINT0) (io), 14 GND (power)

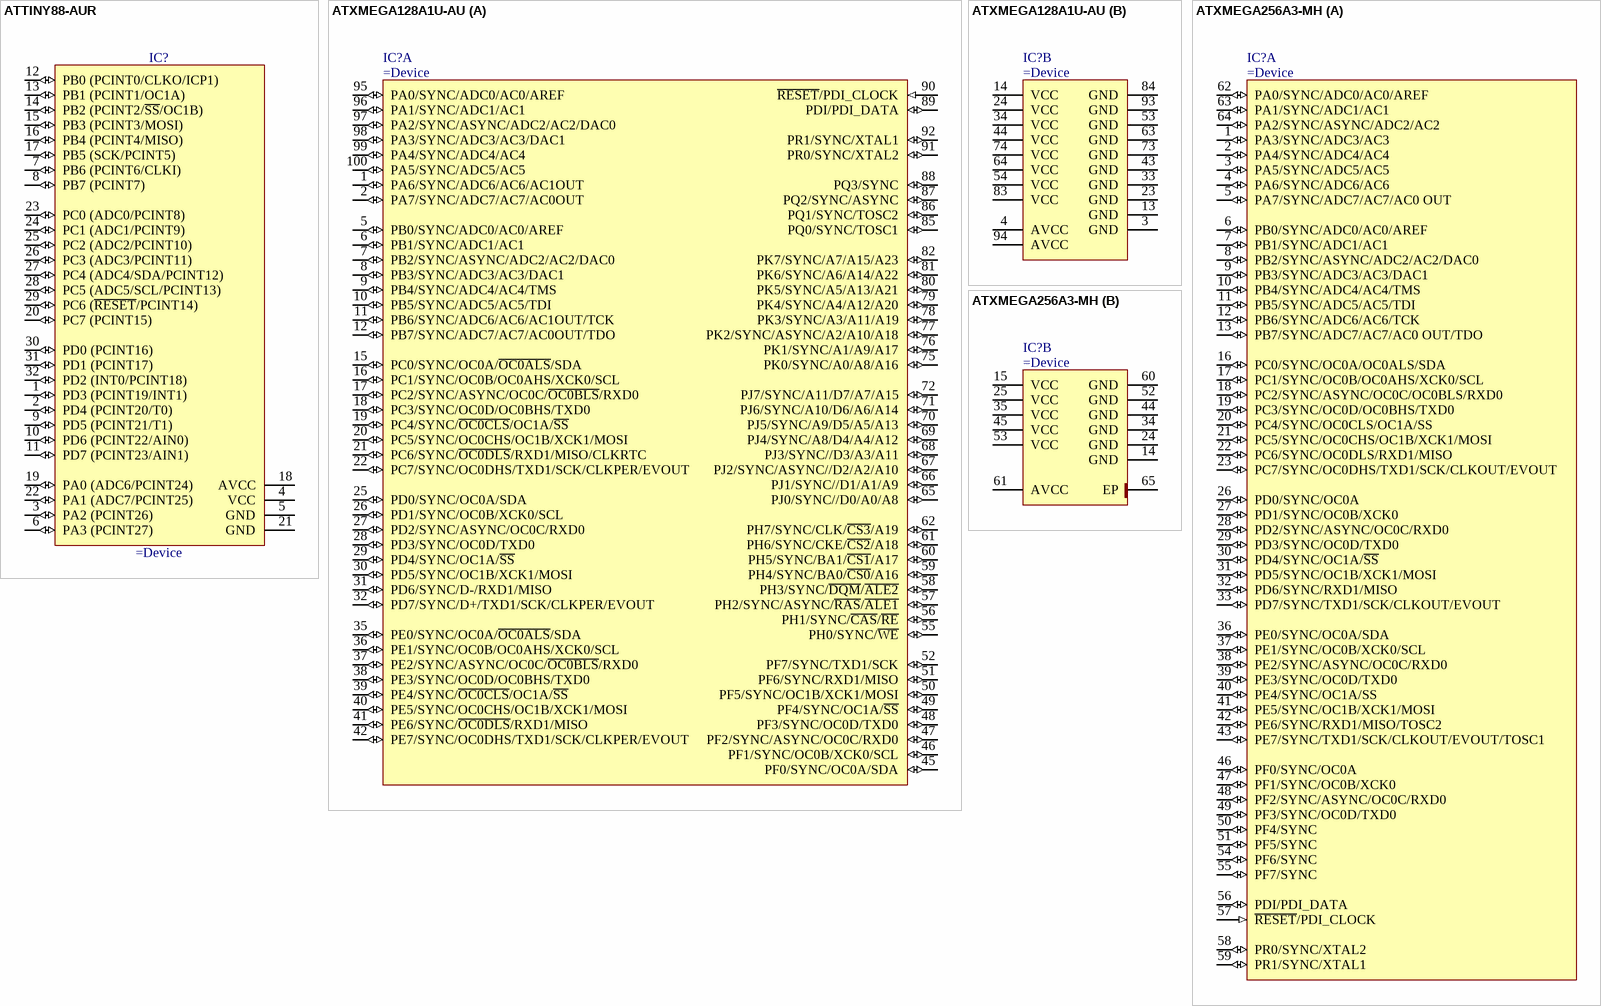
[diagram p39: symbols ATTINY88-AUR to ATXMEGA256A3-MH]

## ATTINY88-AUR
designator IC?
8-bit AVR Microcontroller, 1.8-5.5V, 12MHz, 8KB Flash, 64 Bytes EEPROM, 512 Bytes SRAM, 32-pin TQFP, Industrial Grade (-40°C to 85°C), Pb-Free, Reel
pins: 1 PD3 (PCINT19/INT1) (io), 2 PD4 (PCINT20/T0) (io), 3 PA2 (PCINT26) (io), 4 VCC (power), 5 GND (power), 6 PA3 (PCINT27) (io), 7 PB6 (PCINT6/CLKI) (io), 8 PB7 (PCINT7) (io), 9 PD5 (PCINT21/T1) (io), 10 PD6 (PCINT22/AIN0) (io), 11 PD7 (PCINT23/AIN1) (io), 12 PB0 (PCINT0/CLKO/ICP1) (io), 13 PB1 (PCINT1/OC1A) (io), 14 PB2 (PCINT2/~{SS}/OC1B) (io), 15 PB3 (PCINT3/MOSI) (io), 16 PB4 (PCINT4/MISO) (io), 17 PB5 (SCK/PCINT5) (io), 18 AVCC (power), 19 PA0 (ADC6/PCINT24) (io), 20 PC7 (PCINT15) (io), 21 GND (power), 22 PA1 (ADC7/PCINT25) (io), 23 PC0 (ADC0/PCINT8) (io), 24 PC1 (ADC1/PCINT9) (io), 25 PC2 (ADC2/PCINT10) (io), 26 PC3 (ADC3/PCINT11) (io), 27 PC4 (ADC4/SDA/PCINT12) (io), 28 PC5 (ADC5/SCL/PCINT13) (io), 29 PC6 (~{RESET}/PCINT14) (io), 30 PD0 (PCINT16) (io), 31 PD1 (PCINT17) (io), 32 PD2 (INT0/PCINT18) (io)

## ATXMEGA128A1U-AU
designator IC?
8/16-bit AVR XMEGA A1U Microcontroller, 1.6-3.6V, 128KB + 8KB Flash, 2KB EEPROM, 8KB SRAM, 100-pin TQFP, Industrial Grade (-40°C to 85°C), Pb-Free
part A pins: 1 PA6/SYNC/ADC6/AC6/AC1OUT (io), 2 PA7/SYNC/ADC7/AC7/AC0OUT (io), 5 PB0/SYNC/ADC0/AC0/AREF (io), 6 PB1/SYNC/ADC1/AC1 (io), 7 PB2/SYNC/ASYNC/ADC2/AC2/DAC0 (io), 8 PB3/SYNC/ADC3/AC3/DAC1 (io), 9 PB4/SYNC/ADC4/AC4/TMS (io), 10 PB5/SYNC/ADC5/AC5/TDI (io), 11 PB6/SYNC/ADC6/AC6/AC1OUT/TCK (io), 12 PB7/SYNC/ADC7/AC7/AC0OUT/TDO (io), 15 PC0/SYNC/OC0A/~{OC0ALS}/SDA (io), 16 PC1/SYNC/OC0B/OC0AHS/XCK0/SCL (io), 17 PC2/SYNC/ASYNC/OC0C/~{OC0BLS}/RXD0 (io), 18 PC3/SYNC/OC0D/OC0BHS/TXD0 (io), 19 PC4/SYNC/~{OC0CLS}/OC1A/~{SS} (io), 20 PC5/SYNC/OC0CHS/OC1B/XCK1/MOSI (io), 21 PC6/SYNC/~{OC0DLS}/RXD1/MISO/CLKRTC (io), 22 PC7/SYNC/OC0DHS/TXD1/SCK/CLKPER/EVOUT (io), 25 PD0/SYNC/OC0A/SDA (io), 26 PD1/SYNC/OC0B/XCK0/SCL (io), 27 PD2/SYNC/ASYNC/OC0C/RXD0 (io), 28 PD3/SYNC/OC0D/TXD0 (io), 29 PD4/SYNC/OC1A/~{SS} (io), 30 PD5/SYNC/OC1B/XCK1/MOSI (io), 31 PD6/SYNC/D-/RXD1/MISO (io), 32 PD7/SYNC/D+/TXD1/SCK/CLKPER/EVOUT (io), 35 PE0/SYNC/OC0A/~{OC0ALS}/SDA (io), 36 PE1/SYNC/OC0B/OC0AHS/XCK0/SCL (io), 37 PE2/SYNC/ASYNC/OC0C/~{OC0BLS}/RXD0 (io), 38 PE3/SYNC/OC0D/OC0BHS/TXD0 (io), 39 PE4/SYNC/~{OC0CLS}/OC1A/~{SS} (io), 40 PE5/SYNC/OC0CHS/OC1B/XCK1/MOSI (io), 41 PE6/SYNC/~{OC0DLS}/RXD1/MISO (io), 42 PE7/SYNC/OC0DHS/TXD1/SCK/CLKPER/EVOUT (io), 45 PF0/SYNC/OC0A/SDA (io), 46 PF1/SYNC/OC0B/XCK0/SCL (io), 47 PF2/SYNC/ASYNC/OC0C/RXD0 (io), 48 PF3/SYNC/OC0D/TXD0 (io), 49 PF4/SYNC/OC1A/~{SS} (io), 50 PF5/SYNC/OC1B/XCK1/MOSI (io), 51 PF6/SYNC/RXD1/MISO (io), 52 PF7/SYNC/TXD1/SCK (io), 55 PH0/SYNC/~{WE} (io), 56 PH1/SYNC/~{CAS}/~{RE} (io), 57 PH2/SYNC/ASYNC/~{RAS}/~{ALE1} (io), 58 PH3/SYNC/~{DQM}/~{ALE2} (io), 59 PH4/SYNC/BA0/~{CS0}/A16 (io), 60 PH5/SYNC/BA1/~{CS1}/A17 (io), 61 PH6/SYNC/CKE/~{CS2}/A18 (io), 62 PH7/SYNC/CLK/~{CS3}/A19 (io), 65 PJ0/SYNC//D0/A0/A8 (io), 66 PJ1/SYNC//D1/A1/A9 (io), 67 PJ2/SYNC/ASYNC//D2/A2/A10 (io), 68 PJ3/SYNC//D3/A3/A11 (io), 69 PJ4/SYNC/A8/D4/A4/A12 (io), 70 PJ5/SYNC/A9/D5/A5/A13 (io), 71 PJ6/SYNC/A10/D6/A6/A14 (io), 72 PJ7/SYNC/A11/D7/A7/A15 (io), 75 PK0/SYNC/A0/A8/A16 (io), 76 PK1/SYNC/A1/A9/A17 (io), 77 PK2/SYNC/ASYNC/A2/A10/A18 (io), 78 PK3/SYNC/A3/A11/A19 (io), 79 PK4/SYNC/A4/A12/A20 (io), 80 PK5/SYNC/A5/A13/A21 (io), 81 PK6/SYNC/A6/A14/A22 (io), 82 PK7/SYNC/A7/A15/A23 (io), 85 PQ0/SYNC/TOSC1 (io), 86 PQ1/SYNC/TOSC2 (io), 87 PQ2/SYNC/ASYNC (io), 88 PQ3/SYNC (io), 89 PDI/PDI_DATA (io), 90 ~{RESET}/PDI_CLOCK (in), 91 PR0/SYNC/XTAL2 (io), 92 PR1/SYNC/XTAL1 (io), 95 PA0/SYNC/ADC0/AC0/AREF (io), 96 PA1/SYNC/ADC1/AC1 (io), 97 PA2/SYNC/ASYNC/ADC2/AC2/DAC0 (io), 98 PA3/SYNC/ADC3/AC3/DAC1 (io), 99 PA4/SYNC/ADC4/AC4 (io), 100 PA5/SYNC/ADC5/AC5 (io)
part B pins: 3 GND (power), 4 AVCC (power), 13 GND (power), 14 VCC (power), 23 GND (power), 24 VCC (power), 33 GND (power), 34 VCC (power), 43 GND (power), 44 VCC (power), 53 GND (power), 54 VCC (power), 63 GND (power), 64 VCC (power), 73 GND (power), 74 VCC (power), 83 VCC (power), 84 GND (power), 93 GND (power), 94 AVCC (power)